# Altium integrated library Renesas Microcontroller H8S.IntLib: 670 symbols (part 51 of 70)
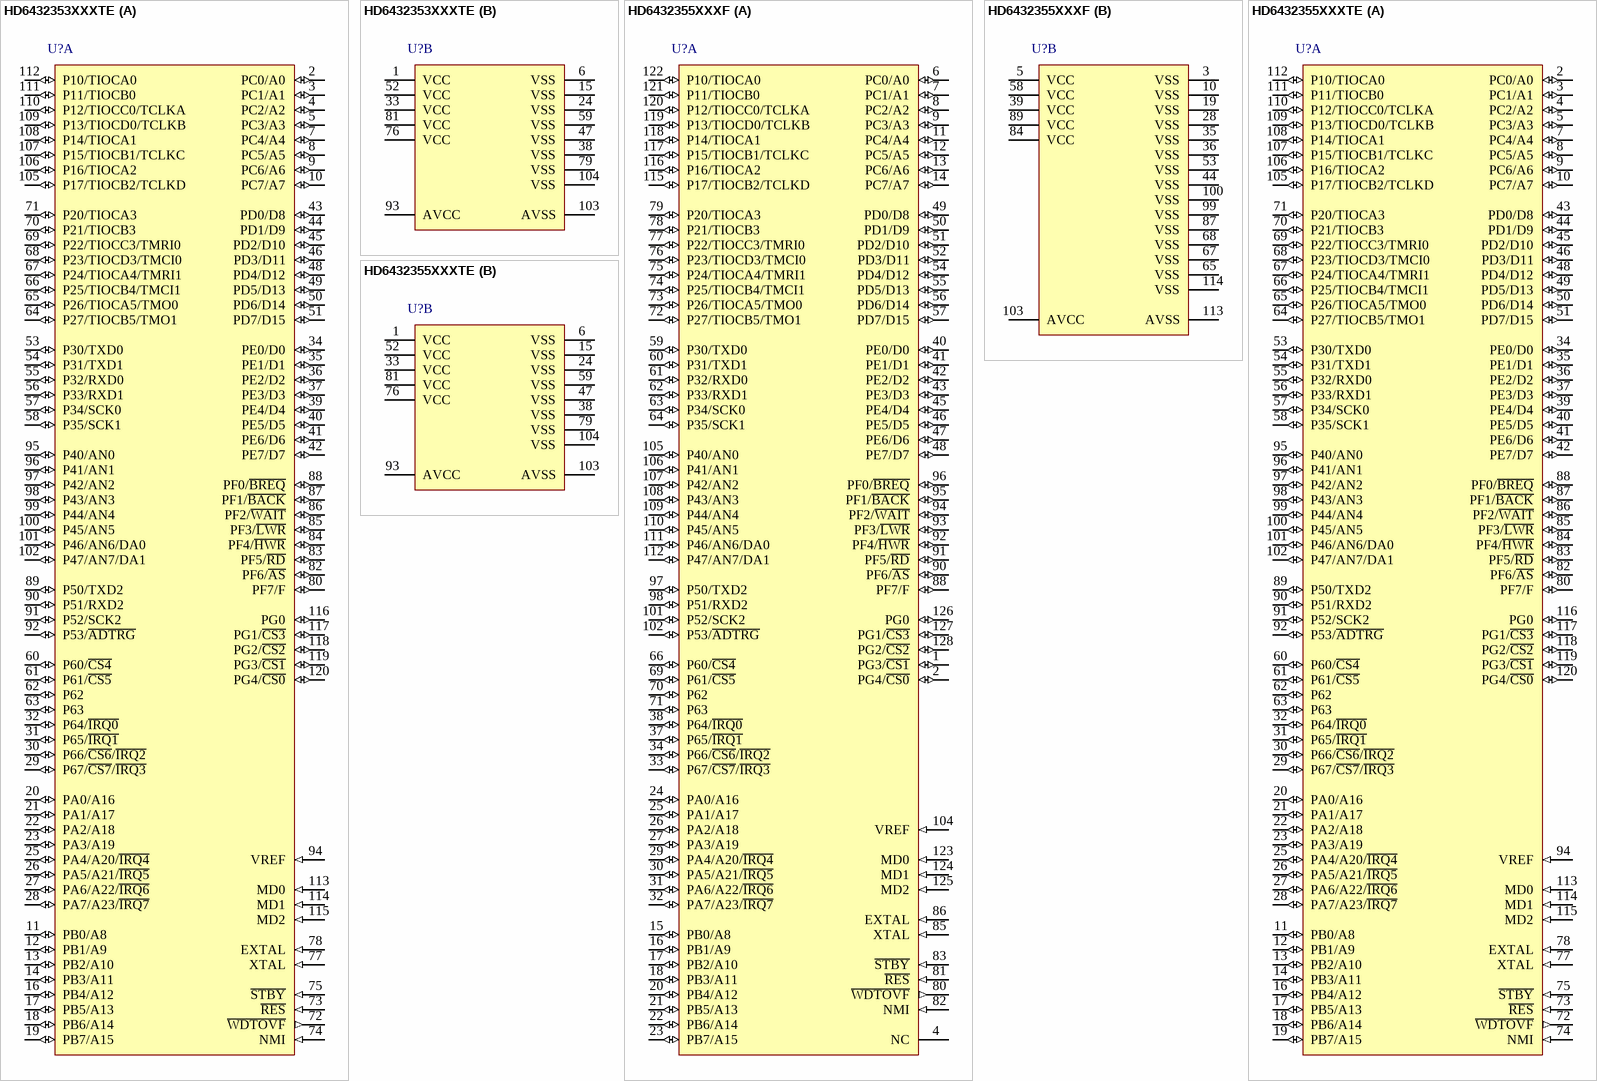
[diagram p270: symbols HD6432353XXXTE to HD6432355XXXTE]

## HD6432355XXXF
designator U?
Mask ROM H8S/2300 Series, 2355 Group MCU, 128K ROM, 4K RAM, FP-128B Pkg; Published: 28-Aug-2009; DatasheetVersion: Rev.4.00, Feb-2007; PackageVersion: Sep-2005; PackageReference: PRQP0128KB-A; Publisher: Altium Limited; PackageDescription: 128-Pin Plastic Quad Flat Pack, 20 x 14 x 2.7 mm Body, 0.5 mm Pitch; Code_JEITA: P-QFP128-14x20-0.50; Code_IPC: SQFP50P1600X2200-128; ComponentLink1Description: Manufacturer Link; ComponentLink1URL: http://sg.renesas.com/fmwk.jsp?cnt=h8s_family_landing.jsp&fp=/products/mpumcu/h8s_family/; ComponentLink2Description: Datasheet; ComponentLink2URL: http://documentation.renesas.com/eng/products/mpumcu/rej09b0354_2355hm.pdf; ComponentLink3Description: Packaging Specification; ComponentLink3URL: http://sg.renesas.com/media/products/common_info/package/pdf/ic/code/prqp0128kb_a.pdf
footprint PRQP0128KB-A_N (Shrink QFP, 128-Leads, Body 20x14 mm, Pitch 0.5mm, IPC Medium Density)
footprint PRQP0128KB-A_L (Shrink QFP, 128-Leads, Body 20x14 mm, Pitch 0.5mm, IPC High Density)
footprint PRQP0128KB-A_M (Shrink QFP, 128-Leads, Body 20x14 mm, Pitch 0.5mm, IPC Low Density)
part A pins: 1 PG3/~{CS1} (io), 2 PG4/~{CS0} (io), 4 NC, 6 PC0/A0 (io), 7 PC1/A1 (io), 8 PC2/A2 (io), 9 PC3/A3 (io), 11 PC4/A4 (io), 12 PC5/A5 (io), 13 PC6/A6 (io), 14 PC7/A7 (io), 15 PB0/A8 (io), 16 PB1/A9 (io), 17 PB2/A10 (io), 18 PB3/A11 (io), 20 PB4/A12 (io), 21 PB5/A13 (io), 22 PB6/A14 (io), 23 PB7/A15 (io), 24 PA0/A16 (io), 25 PA1/A17 (io), 26 PA2/A18 (io), 27 PA3/A19 (io), 29 PA4/A20/~{IRQ4} (io), 30 PA5/A21/~{IRQ5} (io), 31 PA6/A22/~{IRQ6} (io), 32 PA7/A23/~{IRQ7} (io), 33 P67/~{CS7}/~{IRQ3} (io), 34 P66/~{CS6}/~{IRQ2} (io), 37 P65/~{IRQ1} (io), 38 P64/~{IRQ0} (io), 40 PE0/D0 (io), 41 PE1/D1 (io), 42 PE2/D2 (io), 43 PE3/D3 (io), 45 PE4/D4 (io), 46 PE5/D5 (io), 47 PE6/D6 (io), 48 PE7/D7 (io), 49 PD0/D8 (io), 50 PD1/D9 (io), 51 PD2/D10 (io), 52 PD3/D11 (io), 54 PD4/D12 (io), 55 PD5/D13 (io), 56 PD6/D14 (io), 57 PD7/D15 (io), 59 P30/TXD0 (io), 60 P31/TXD1 (io), 61 P32/RXD0 (io), 62 P33/RXD1 (io), 63 P34/SCK0 (io), 64 P35/SCK1 (io), 66 P60/~{CS4} (io), 69 P61/~{CS5} (io), 70 P62 (io), 71 P63 (io), 72 P27/TIOCB5/TMO1 (io), 73 P26/TIOCA5/TMO0 (io), 74 P25/TIOCB4/TMCI1 (io), 75 P24/TIOCA4/TMRI1 (io), 76 P23/TIOCD3/TMCI0 (io), 77 P22/TIOCC3/TMRI0 (io), 78 P21/TIOCB3 (io), 79 P20/TIOCA3 (io), 80 ~{WDTOVF} (out), 81 ~{RES} (in), 82 NMI (in), 83 ~{STBY} (in), 85 XTAL (in), 86 EXTAL (in), 88 PF7/F (io), 90 PF6/~{AS} (io), 91 PF5/~{RD} (io), 92 PF4/~{HWR} (io), 93 PF3/~{LWR} (io), 94 PF2/~{WAIT} (io), 95 PF1/~{BACK} (io), 96 PF0/~{BREQ} (io), 97 P50/TXD2 (io), 98 P51/RXD2 (io), 101 P52/SCK2 (io), 102 P53/~{ADTRG} (io), 104 VREF (in), 105 P40/AN0 (io), 106 P41/AN1 (io), 107 P42/AN2 (io), 108 P43/AN3 (io), 109 P44/AN4 (io), 110 P45/AN5 (io), 111 P46/AN6/DA0 (io), 112 P47/AN7/DA1 (io), 115 P17/TIOCB2/TCLKD (io), 116 P16/TIOCA2 (io), 117 P15/TIOCB1/TCLKC (io), 118 P14/TIOCA1 (io), 119 P13/TIOCD0/TCLKB (io), 120 P12/TIOCC0/TCLKA (io), 121 P11/TIOCB0 (io), 122 P10/TIOCA0 (io), 123 MD0 (in), 124 MD1 (in), 125 MD2 (in), 126 PG0 (io), 127 PG1/~{CS3} (io), 128 PG2/~{CS2} (io)
part B pins: 3 VSS (power), 5 VCC (power), 10 VSS (power), 19 VSS (power), 28 VSS (power), 35 VSS (power), 36 VSS (power), 39 VCC (power), 44 VSS (power), 53 VSS (power), 58 VCC (power), 65 VSS (power), 67 VSS (power), 68 VSS (power), 84 VCC (power), 87 VSS (power), 89 VCC (power), 99 VSS (power), 100 VSS (power), 103 AVCC (power), 113 AVSS (power), 114 VSS (power)

## HD6432355XXXTE
designator U?
Mask ROM H8S/2300 Series, 2355 Group MCU, 128K ROM, 4K RAM, TFP-120 Pkg; Published: 28-Aug-2009; DatasheetVersion: Rev.4.00, Feb-2007; PackageVersion: Sep-2005; PackageReference: PTQP0120LA-A; Publisher: Altium Limited; PackageDescription: 120-Pin Plastic Thin QFP, 14 x 14 x 1.0 mm Body, 0.4 mm Pitch; Code_JEITA: P-TQFP120-14x14-0.40; ComponentLink1Description: Manufacturer Link; ComponentLink1URL: http://sg.renesas.com/fmwk.jsp?cnt=h8s_family_landing.jsp&fp=/products/mpumcu/h8s_family/; ComponentLink2Description: Datasheet; ComponentLink2URL: http://documentation.renesas.com/eng/products/mpumcu/rej09b0354_2355hm.pdf; ComponentLink3Description: Packaging Specification; ComponentLink3URL: http://sg.renesas.com/media/products/common_info/package/pdf/ic/code/ptqp0120la_a.pdf
footprint PTQP0120LA-A_N (Thin QFP, 120-Leads, Body 14x14mm, Pitch 0.4mm, IPC Medium Density)
footprint PTQP0120LA-A_L (Thin QFP, 120-Leads, Body 14x14mm, Pitch 0.4mm, IPC High Density)
footprint PTQP0120LA-A_M (Thin QFP, 120-Leads, Body 14x14mm, Pitch 0.4mm, IPC Low Density)
part A pins: 2 PC0/A0 (io), 3 PC1/A1 (io), 4 PC2/A2 (io), 5 PC3/A3 (io), 7 PC4/A4 (io), 8 PC5/A5 (io), 9 PC6/A6 (io), 10 PC7/A7 (io), 11 PB0/A8 (io), 12 PB1/A9 (io), 13 PB2/A10 (io), 14 PB3/A11 (io), 16 PB4/A12 (io), 17 PB5/A13 (io), 18 PB6/A14 (io), 19 PB7/A15 (io), 20 PA0/A16 (io), 21 PA1/A17 (io), 22 PA2/A18 (io), 23 PA3/A19 (io), 25 PA4/A20/~{IRQ4} (io), 26 PA5/A21/~{IRQ5} (io), 27 PA6/A22/~{IRQ6} (io), 28 PA7/A23/~{IRQ7} (io), 29 P67/~{CS7}/~{IRQ3} (io), 30 P66/~{CS6}/~{IRQ2} (io), 31 P65/~{IRQ1} (io), 32 P64/~{IRQ0} (io), 34 PE0/D0 (io), 35 PE1/D1 (io), 36 PE2/D2 (io), 37 PE3/D3 (io), 39 PE4/D4 (io), 40 PE5/D5 (io), 41 PE6/D6 (io), 42 PE7/D7 (io), 43 PD0/D8 (io), 44 PD1/D9 (io), 45 PD2/D10 (io), 46 PD3/D11 (io), 48 PD4/D12 (io), 49 PD5/D13 (io), 50 PD6/D14 (io), 51 PD7/D15 (io), 53 P30/TXD0 (io), 54 P31/TXD1 (io), 55 P32/RXD0 (io), 56 P33/RXD1 (io), 57 P34/SCK0 (io), 58 P35/SCK1 (io), 60 P60/~{CS4} (io), 61 P61/~{CS5} (io), 62 P62 (io), 63 P63 (io), 64 P27/TIOCB5/TMO1 (io), 65 P26/TIOCA5/TMO0 (io), 66 P25/TIOCB4/TMCI1 (io), 67 P24/TIOCA4/TMRI1 (io), 68 P23/TIOCD3/TMCI0 (io), 69 P22/TIOCC3/TMRI0 (io), 70 P21/TIOCB3 (io), 71 P20/TIOCA3 (io), 72 ~{WDTOVF} (out), 73 ~{RES} (in), 74 NMI (in), 75 ~{STBY} (in), 77 XTAL (in), 78 EXTAL (in), 80 PF7/F (io), 82 PF6/~{AS} (io), 83 PF5/~{RD} (io), 84 PF4/~{HWR} (io), 85 PF3/~{LWR} (io), 86 PF2/~{WAIT} (io), 87 PF1/~{BACK} (io), 88 PF0/~{BREQ} (io), 89 P50/TXD2 (io), 90 P51/RXD2 (io), 91 P52/SCK2 (io), 92 P53/~{ADTRG} (io), 94 VREF (in), 95 P40/AN0 (io), 96 P41/AN1 (io), 97 P42/AN2 (io), 98 P43/AN3 (io), 99 P44/AN4 (io), 100 P45/AN5 (io), 101 P46/AN6/DA0 (io), 102 P47/AN7/DA1 (io), 105 P17/TIOCB2/TCLKD (io), 106 P16/TIOCA2 (io), 107 P15/TIOCB1/TCLKC (io), 108 P14/TIOCA1 (io), 109 P13/TIOCD0/TCLKB (io), 110 P12/TIOCC0/TCLKA (io), 111 P11/TIOCB0 (io), 112 P10/TIOCA0 (io), 113 MD0 (in), 114 MD1 (in), 115 MD2 (in), 116 PG0 (io), 117 PG1/~{CS3} (io), 118 PG2/~{CS2} (io), 119 PG3/~{CS1} (io), 120 PG4/~{CS0} (io)
part B pins: 1 VCC (power), 6 VSS (power), 15 VSS (power), 24 VSS (power), 33 VCC (power), 38 VSS (power), 47 VSS (power), 52 VCC (power), 59 VSS (power), 76 VCC (power), 79 VSS (power), 81 VCC (power), 93 AVCC (power), 103 AVSS (power), 104 VSS (power)

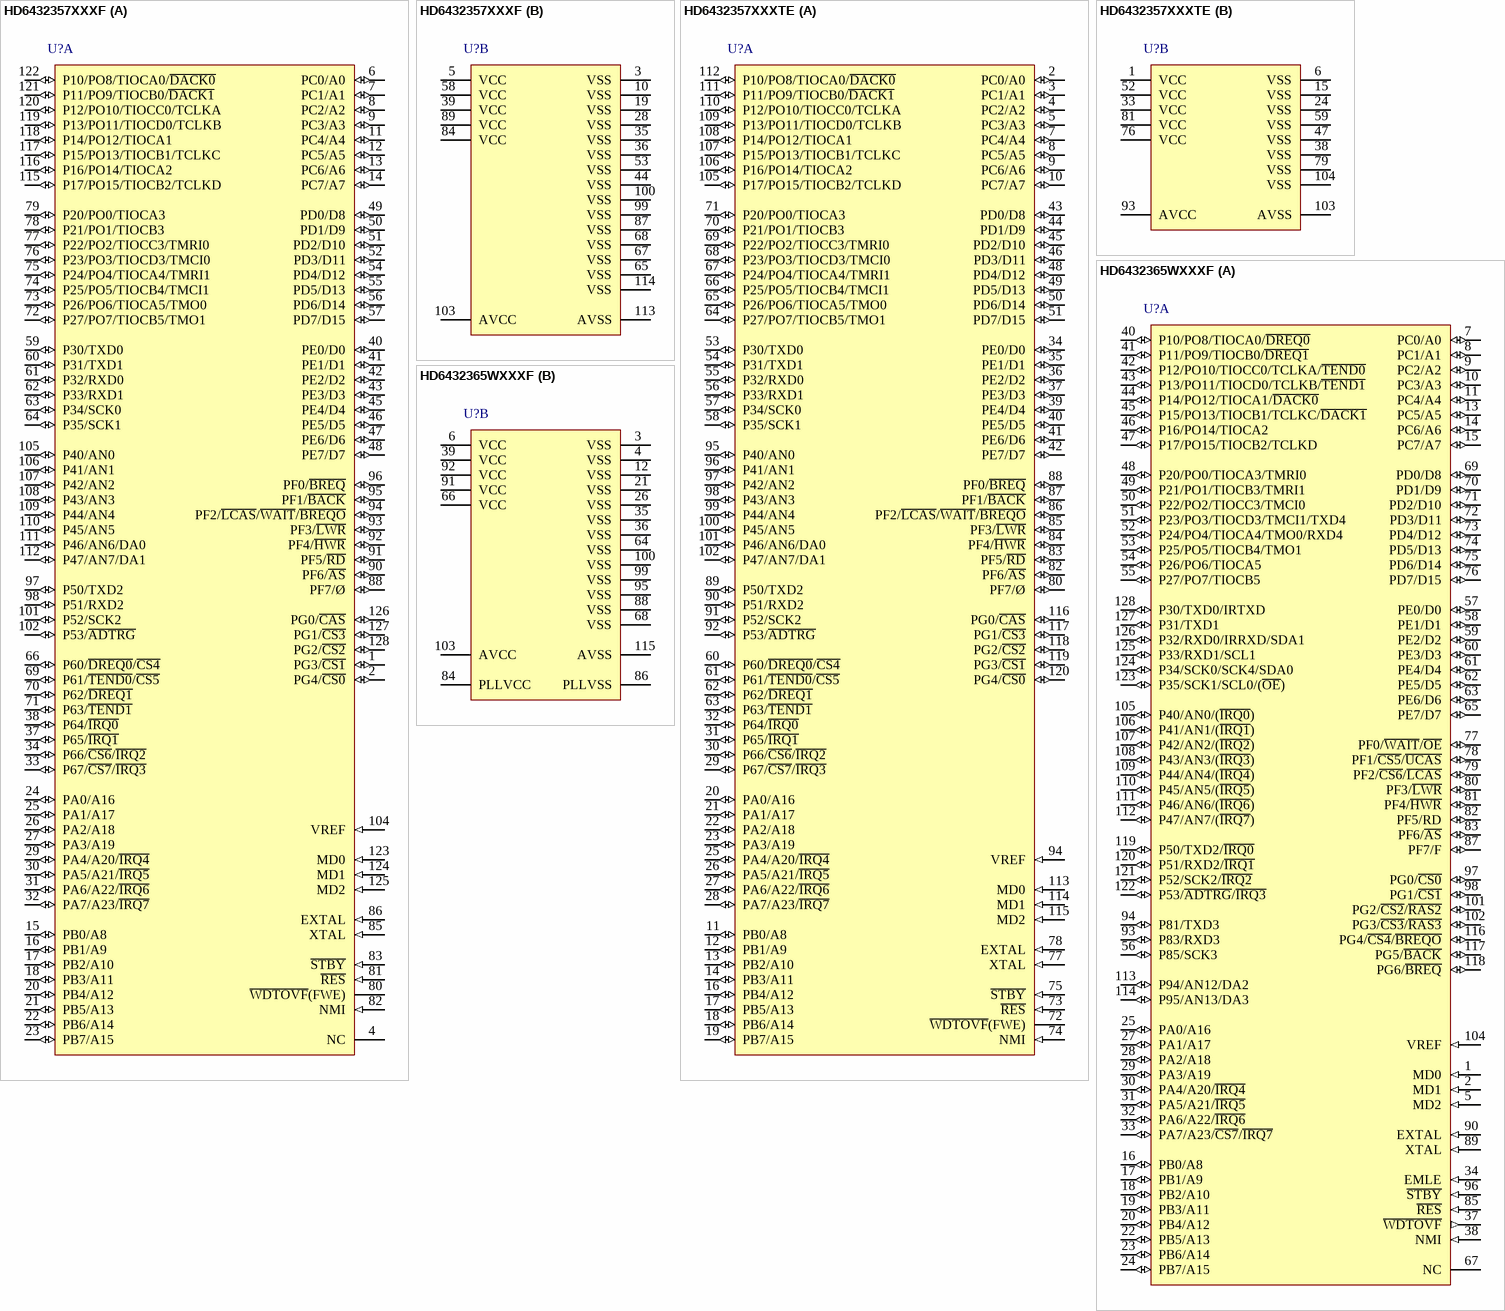
[diagram p176: symbols HD6432357XXXF to HD6432365WXXXF]

## HD6432357XXXF
designator U?
Mask ROM H8S/2300 Series, 2357 Group MCU, 128K ROM, 8K RAM, FP-128B Pkg; Published: 28-Aug-2009; DatasheetVersion: Rev.6.00, Oct-2004; PackageVersion: Sep-2005; PackageReference: PRQP0128KB-A; Publisher: Altium Limited; PackageDescription: 128-Pin Plastic Quad Flat Pack, 20 x 14 x 2.7 mm Body, 0.5 mm Pitch; Code_JEITA: P-QFP128-14x20-0.50; Code_IPC: SQFP50P1600X2200-128; ComponentLink1Description: Manufacturer Link; ComponentLink1URL: http://sg.renesas.com/fmwk.jsp?cnt=h8s_family_landing.jsp&fp=/products/mpumcu/h8s_family/; ComponentLink2Description: Datasheet; ComponentLink2URL: http://documentation.renesas.com/eng/products/mpumcu/rej09b0138_h8s2357.pdf; ComponentLink3Description: Packaging Specification; ComponentLink3URL: http://sg.renesas.com/media/products/common_info/package/pdf/ic/code/prqp0128kb_a.pdf
footprint PRQP0128KB-A_N (Shrink QFP, 128-Leads, Body 20x14 mm, Pitch 0.5mm, IPC Medium Density)
footprint PRQP0128KB-A_L (Shrink QFP, 128-Leads, Body 20x14 mm, Pitch 0.5mm, IPC High Density)
footprint PRQP0128KB-A_M (Shrink QFP, 128-Leads, Body 20x14 mm, Pitch 0.5mm, IPC Low Density)
part A pins: 1 PG3/~{CS1} (io), 2 PG4/~{CS0} (io), 4 NC, 6 PC0/A0 (io), 7 PC1/A1 (io), 8 PC2/A2 (io), 9 PC3/A3 (io), 11 PC4/A4 (io), 12 PC5/A5 (io), 13 PC6/A6 (io), 14 PC7/A7 (io), 15 PB0/A8 (io), 16 PB1/A9 (io), 17 PB2/A10 (io), 18 PB3/A11 (io), 20 PB4/A12 (io), 21 PB5/A13 (io), 22 PB6/A14 (io), 23 PB7/A15 (io), 24 PA0/A16 (io), 25 PA1/A17 (io), 26 PA2/A18 (io), 27 PA3/A19 (io), 29 PA4/A20/~{IRQ4} (io), 30 PA5/A21/~{IRQ5} (io), 31 PA6/A22/~{IRQ6} (io), 32 PA7/A23/~{IRQ7} (io), 33 P67/~{CS7}/~{IRQ3} (io), 34 P66/~{CS6}/~{IRQ2} (io), 37 P65/~{IRQ1} (io), 38 P64/~{IRQ0} (io), 40 PE0/D0 (io), 41 PE1/D1 (io), 42 PE2/D2 (io), 43 PE3/D3 (io), 45 PE4/D4 (io), 46 PE5/D5 (io), 47 PE6/D6 (io), 48 PE7/D7 (io), 49 PD0/D8 (io), 50 PD1/D9 (io), 51 PD2/D10 (io), 52 PD3/D11 (io), 54 PD4/D12 (io), 55 PD5/D13 (io), 56 PD6/D14 (io), 57 PD7/D15 (io), 59 P30/TXD0 (io), 60 P31/TXD1 (io), 61 P32/RXD0 (io), 62 P33/RXD1 (io), 63 P34/SCK0 (io), 64 P35/SCK1 (io), 66 P60/~{DREQ0}/~{CS4} (io), 69 P61/~{TEND0}/~{CS5} (io), 70 P62/~{DREQ1} (io), 71 P63/~{TEND1} (io), 72 P27/PO7/TIOCB5/TMO1 (io), 73 P26/PO6/TIOCA5/TMO0 (io), 74 P25/PO5/TIOCB4/TMCI1 (io), 75 P24/PO4/TIOCA4/TMRI1 (io), 76 P23/PO3/TIOCD3/TMCI0 (io), 77 P22/PO2/TIOCC3/TMRI0 (io), 78 P21/PO1/TIOCB3 (io), 79 P20/PO0/TIOCA3 (io), 80 ~{WDTOVF}(FWE), 81 ~{RES} (in), 82 NMI (in), 83 ~{STBY} (in), 85 XTAL (in), 86 EXTAL (in), 88 PF7/Ø (io), 90 PF6/~{AS} (io), 91 PF5/~{RD} (io), 92 PF4/~{HWR} (io), 93 PF3/~{LWR} (io), 94 PF2/~{LCAS}/~{WAIT}/~{BREQO} (io), 95 PF1/~{BACK} (io), 96 PF0/~{BREQ} (io), 97 P50/TXD2 (io), 98 P51/RXD2 (io), 101 P52/SCK2 (io), 102 P53/~{ADTRG} (io), 104 VREF (in), 105 P40/AN0 (io), 106 P41/AN1 (io), 107 P42/AN2 (io), 108 P43/AN3 (io), 109 P44/AN4 (io), 110 P45/AN5 (io), 111 P46/AN6/DA0 (io), 112 P47/AN7/DA1 (io), 115 P17/PO15/TIOCB2/TCLKD (io), 116 P16/PO14/TIOCA2 (io), 117 P15/PO13/TIOCB1/TCLKC (io), 118 P14/PO12/TIOCA1 (io), 119 P13/PO11/TIOCD0/TCLKB (io), 120 P12/PO10/TIOCC0/TCLKA (io), 121 P11/PO9/TIOCB0/~{DACK1} (io), 122 P10/PO8/TIOCA0/~{DACK0} (io), 123 MD0 (in), 124 MD1 (in), 125 MD2 (in), 126 PG0/~{CAS} (io), 127 PG1/~{CS3} (io), 128 PG2/~{CS2} (io)
part B pins: 3 VSS (power), 5 VCC (power), 10 VSS (power), 19 VSS (power), 28 VSS (power), 35 VSS (power), 36 VSS (power), 39 VCC (power), 44 VSS (power), 53 VSS (power), 58 VCC (power), 65 VSS (power), 67 VSS (power), 68 VSS (power), 84 VCC (power), 87 VSS (power), 89 VCC (power), 99 VSS (power), 100 VSS (power), 103 AVCC (power), 113 AVSS (power), 114 VSS (power)

## HD6432357XXXTE
designator U?
Mask ROM H8S/2300 Series, 2357 Group MCU, 128K ROM, 8K RAM, TFP-120 Pkg; Published: 28-Aug-2009; DatasheetVersion: Rev.6.00, Oct-2004; PackageVersion: Sep-2005; PackageReference: PTQP0120LA-A; Publisher: Altium Limited; PackageDescription: 120-Pin Plastic Thin QFP, 14 x 14 x 1.0 mm Body, 0.4 mm Pitch; Code_JEITA: P-TQFP120-14x14-0.40; ComponentLink1Description: Manufacturer Link; ComponentLink1URL: http://sg.renesas.com/fmwk.jsp?cnt=h8s_family_landing.jsp&fp=/products/mpumcu/h8s_family/; ComponentLink2Description: Datasheet; ComponentLink2URL: http://documentation.renesas.com/eng/products/mpumcu/rej09b0138_h8s2357.pdf; ComponentLink3Description: Packaging Specification; ComponentLink3URL: http://sg.renesas.com/media/products/common_info/package/pdf/ic/code/ptqp0120la_a.pdf
footprint PTQP0120LA-A_N (Thin QFP, 120-Leads, Body 14x14mm, Pitch 0.4mm, IPC Medium Density)
footprint PTQP0120LA-A_L (Thin QFP, 120-Leads, Body 14x14mm, Pitch 0.4mm, IPC High Density)
footprint PTQP0120LA-A_M (Thin QFP, 120-Leads, Body 14x14mm, Pitch 0.4mm, IPC Low Density)
part A pins: 2 PC0/A0 (io), 3 PC1/A1 (io), 4 PC2/A2 (io), 5 PC3/A3 (io), 7 PC4/A4 (io), 8 PC5/A5 (io), 9 PC6/A6 (io), 10 PC7/A7 (io), 11 PB0/A8 (io), 12 PB1/A9 (io), 13 PB2/A10 (io), 14 PB3/A11 (io), 16 PB4/A12 (io), 17 PB5/A13 (io), 18 PB6/A14 (io), 19 PB7/A15 (io), 20 PA0/A16 (io), 21 PA1/A17 (io), 22 PA2/A18 (io), 23 PA3/A19 (io), 25 PA4/A20/~{IRQ4} (io), 26 PA5/A21/~{IRQ5} (io), 27 PA6/A22/~{IRQ6} (io), 28 PA7/A23/~{IRQ7} (io), 29 P67/~{CS7}/~{IRQ3} (io), 30 P66/~{CS6}/~{IRQ2} (io), 31 P65/~{IRQ1} (io), 32 P64/~{IRQ0} (io), 34 PE0/D0 (io), 35 PE1/D1 (io), 36 PE2/D2 (io), 37 PE3/D3 (io), 39 PE4/D4 (io), 40 PE5/D5 (io), 41 PE6/D6 (io), 42 PE7/D7 (io), 43 PD0/D8 (io), 44 PD1/D9 (io), 45 PD2/D10 (io), 46 PD3/D11 (io), 48 PD4/D12 (io), 49 PD5/D13 (io), 50 PD6/D14 (io), 51 PD7/D15 (io), 53 P30/TXD0 (io), 54 P31/TXD1 (io), 55 P32/RXD0 (io), 56 P33/RXD1 (io), 57 P34/SCK0 (io), 58 P35/SCK1 (io), 60 P60/~{DREQ0}/~{CS4} (io), 61 P61/~{TEND0}/~{CS5} (io), 62 P62/~{DREQ1} (io), 63 P63/~{TEND1} (io), 64 P27/PO7/TIOCB5/TMO1 (io), 65 P26/PO6/TIOCA5/TMO0 (io), 66 P25/PO5/TIOCB4/TMCI1 (io), 67 P24/PO4/TIOCA4/TMRI1 (io), 68 P23/PO3/TIOCD3/TMCI0 (io), 69 P22/PO2/TIOCC3/TMRI0 (io), 70 P21/PO1/TIOCB3 (io), 71 P20/PO0/TIOCA3 (io), 72 ~{WDTOVF}(FWE), 73 ~{RES} (in), 74 NMI (in), 75 ~{STBY} (in), 77 XTAL (in), 78 EXTAL (in), 80 PF7/Ø (io), 82 PF6/~{AS} (io), 83 PF5/~{RD} (io), 84 PF4/~{HWR} (io), 85 PF3/~{LWR} (io), 86 PF2/~{LCAS}/~{WAIT}/~{BREQO} (io), 87 PF1/~{BACK} (io), 88 PF0/~{BREQ} (io), 89 P50/TXD2 (io), 90 P51/RXD2 (io), 91 P52/SCK2 (io), 92 P53/~{ADTRG} (io), 94 VREF (in), 95 P40/AN0 (io), 96 P41/AN1 (io), 97 P42/AN2 (io), 98 P43/AN3 (io), 99 P44/AN4 (io), 100 P45/AN5 (io), 101 P46/AN6/DA0 (io), 102 P47/AN7/DA1 (io), 105 P17/PO15/TIOCB2/TCLKD (io), 106 P16/PO14/TIOCA2 (io), 107 P15/PO13/TIOCB1/TCLKC (io), 108 P14/PO12/TIOCA1 (io), 109 P13/PO11/TIOCD0/TCLKB (io), 110 P12/PO10/TIOCC0/TCLKA (io), 111 P11/PO9/TIOCB0/~{DACK1} (io), 112 P10/PO8/TIOCA0/~{DACK0} (io), 113 MD0 (in), 114 MD1 (in), 115 MD2 (in), 116 PG0/~{CAS} (io), 117 PG1/~{CS3} (io), 118 PG2/~{CS2} (io), 119 PG3/~{CS1} (io), 120 PG4/~{CS0} (io)
part B pins: 1 VCC (power), 6 VSS (power), 15 VSS (power), 24 VSS (power), 33 VCC (power), 38 VSS (power), 47 VSS (power), 52 VCC (power), 59 VSS (power), 76 VCC (power), 79 VSS (power), 81 VCC (power), 93 AVCC (power), 103 AVSS (power), 104 VSS (power)

## HD6432365WXXXF
designator U?
Mask ROM H8S/2300 Series, 2368 Group MCU, 256K ROM, 16K RAM, FP-128B Pkg; Published: 28-Aug-2009; DatasheetVersion: Rev.6.00, Mar-2009; PackageVersion: Sep-2005; PackageReference: PRQP0128KB-A; Publisher: Altium Limited; PackageDescription: 128-Pin Plastic Quad Flat Pack, 20 x 14 x 2.7 mm Body, 0.5 mm Pitch; Code_JEITA: P-QFP128-14x20-0.50; Code_IPC: SQFP50P1600X2200-128; ComponentLink1Description: Manufacturer Link; ComponentLink1URL: http://sg.renesas.com/fmwk.jsp?cnt=h8s_family_landing.jsp&fp=/products/mpumcu/h8s_family/; ComponentLink2Description: Datasheet; ComponentLink2URL: http://documentation.renesas.com/eng/products/mpumcu/rej09b0050_h8s2368.pdf; ComponentLink3Description: Packaging Specification; ComponentLink3URL: http://sg.renesas.com/media/products/common_info/package/pdf/ic/code/prqp0128kb_a.pdf
footprint PRQP0128KB-A_N (Shrink QFP, 128-Leads, Body 20x14 mm, Pitch 0.5mm, IPC Medium Density)
footprint PRQP0128KB-A_L (Shrink QFP, 128-Leads, Body 20x14 mm, Pitch 0.5mm, IPC High Density)
footprint PRQP0128KB-A_M (Shrink QFP, 128-Leads, Body 20x14 mm, Pitch 0.5mm, IPC Low Density)
part A pins: 1 MD0 (in), 2 MD1 (in), 5 MD2 (in), 7 PC0/A0 (io), 8 PC1/A1 (io), 9 PC2/A2 (io), 10 PC3/A3 (io), 11 PC4/A4 (io), 13 PC5/A5 (io), 14 PC6/A6 (io), 15 PC7/A7 (io), 16 PB0/A8 (io), 17 PB1/A9 (io), 18 PB2/A10 (io), 19 PB3/A11 (io), 20 PB4/A12 (io), 22 PB5/A13 (io), 23 PB6/A14 (io), 24 PB7/A15 (io), 25 PA0/A16 (io), 27 PA1/A17 (io), 28 PA2/A18 (io), 29 PA3/A19 (io), 30 PA4/A20/~{IRQ4} (io), 31 PA5/A21/~{IRQ5} (io), 32 PA6/A22/~{IRQ6} (io), 33 PA7/A23/~{CS7}/~{IRQ7} (io), 34 EMLE (in), 37 ~{WDTOVF} (out), 38 NMI (in), 40 P10/PO8/TIOCA0/~{DREQ0} (io), 41 P11/PO9/TIOCB0/~{DREQ1} (io), 42 P12/PO10/TIOCC0/TCLKA/~{TEND0} (io), 43 P13/PO11/TIOCD0/TCLKB/~{TEND1} (io), 44 P14/PO12/TIOCA1/~{DACK0} (io), 45 P15/PO13/TIOCB1/TCLKC/~{DACK1} (io), 46 P16/PO14/TIOCA2 (io), 47 P17/PO15/TIOCB2/TCLKD (io), 48 P20/PO0/TIOCA3/TMRI0 (io), 49 P21/PO1/TIOCB3/TMRI1 (io), 50 P22/PO2/TIOCC3/TMCI0 (io), 51 P23/PO3/TIOCD3/TMCI1/TXD4 (io), 52 P24/PO4/TIOCA4/TMO0/RXD4 (io), 53 P25/PO5/TIOCB4/TMO1 (io), 54 P26/PO6/TIOCA5 (io), 55 P27/PO7/TIOCB5 (io), 56 P85/SCK3 (io), 57 PE0/D0 (io), 58 PE1/D1 (io), 59 PE2/D2 (io), 60 PE3/D3 (io), 61 PE4/D4 (io), 62 PE5/D5 (io), 63 PE6/D6 (io), 65 PE7/D7 (io), 67 NC, 69 PD0/D8 (io), 70 PD1/D9 (io), 71 PD2/D10 (io), 72 PD3/D11 (io), 73 PD4/D12 (io), 74 PD5/D13 (io), 75 PD6/D14 (io), 76 PD7/D15 (io), 77 PF0/~{WAIT}/~{OE} (io), 78 PF1/~{CS5}/~{UCAS} (io), 79 PF2/~{CS6}/~{LCAS} (io), 80 PF3/~{LWR} (io), 81 PF4/~{HWR} (io), 82 PF5/RD (io), 83 PF6/~{AS} (io), 85 ~{RES} (in), 87 PF7/F (io), 89 XTAL (in), 90 EXTAL (in), 93 P83/RXD3 (io), 94 P81/TXD3 (io), 96 ~{STBY} (in), 97 PG0/~{CS0} (io), 98 PG1/~{CS1} (io), 101 PG2/~{CS2}/~{RAS2} (io), 102 PG3/~{CS3}/~{RAS3} (io), 104 VREF (in), 105 P40/AN0/(~{IRQ0}) (io), 106 P41/AN1/(~{IRQ1}) (io), 107 P42/AN2/(~{IRQ2}) (io), 108 P43/AN3/(~{IRQ3}) (io), 109 P44/AN4/(~{IRQ4}) (io), 110 P45/AN5/(~{IRQ5}) (io), 111 P46/AN6/(~{IRQ6}) (io), 112 P47/AN7/(~{IRQ7}) (io), 113 P94/AN12/DA2 (io), 114 P95/AN13/DA3 (io), 116 PG4/~{CS4}/~{BREQO} (io), 117 PG5/~{BACK} (io), 118 PG6/~{BREQ} (io), 119 P50/TXD2/~{IRQ0} (io), 120 P51/RXD2/~{IRQ1} (io), 121 P52/SCK2/~{IRQ2} (io), 122 P53/~{ADTRG}/~{IRQ3} (io), 123 P35/SCK1/SCL0/(~{OE}) (io), 124 P34/SCK0/SCK4/SDA0 (io), 125 P33/RXD1/SCL1 (io), 126 P32/RXD0/IRRXD/SDA1 (io), 127 P31/TXD1 (io), 128 P30/TXD0/IRTXD (io)
part B pins: 3 VSS (power), 4 VSS (power), 6 VCC (power), 12 VSS (power), 21 VSS (power), 26 VSS (power), 35 VSS (power), 36 VSS (power), 39 VCC (power), 64 VSS (power), 66 VCC (power), 68 VSS (power), 84 PLLVCC (power), 86 PLLVSS (power), 88 VSS (power), 91 VCC (power), 92 VCC (power), 95 VSS (power), 99 VSS (power), 100 VSS (power), 103 AVCC (power), 115 AVSS (power)

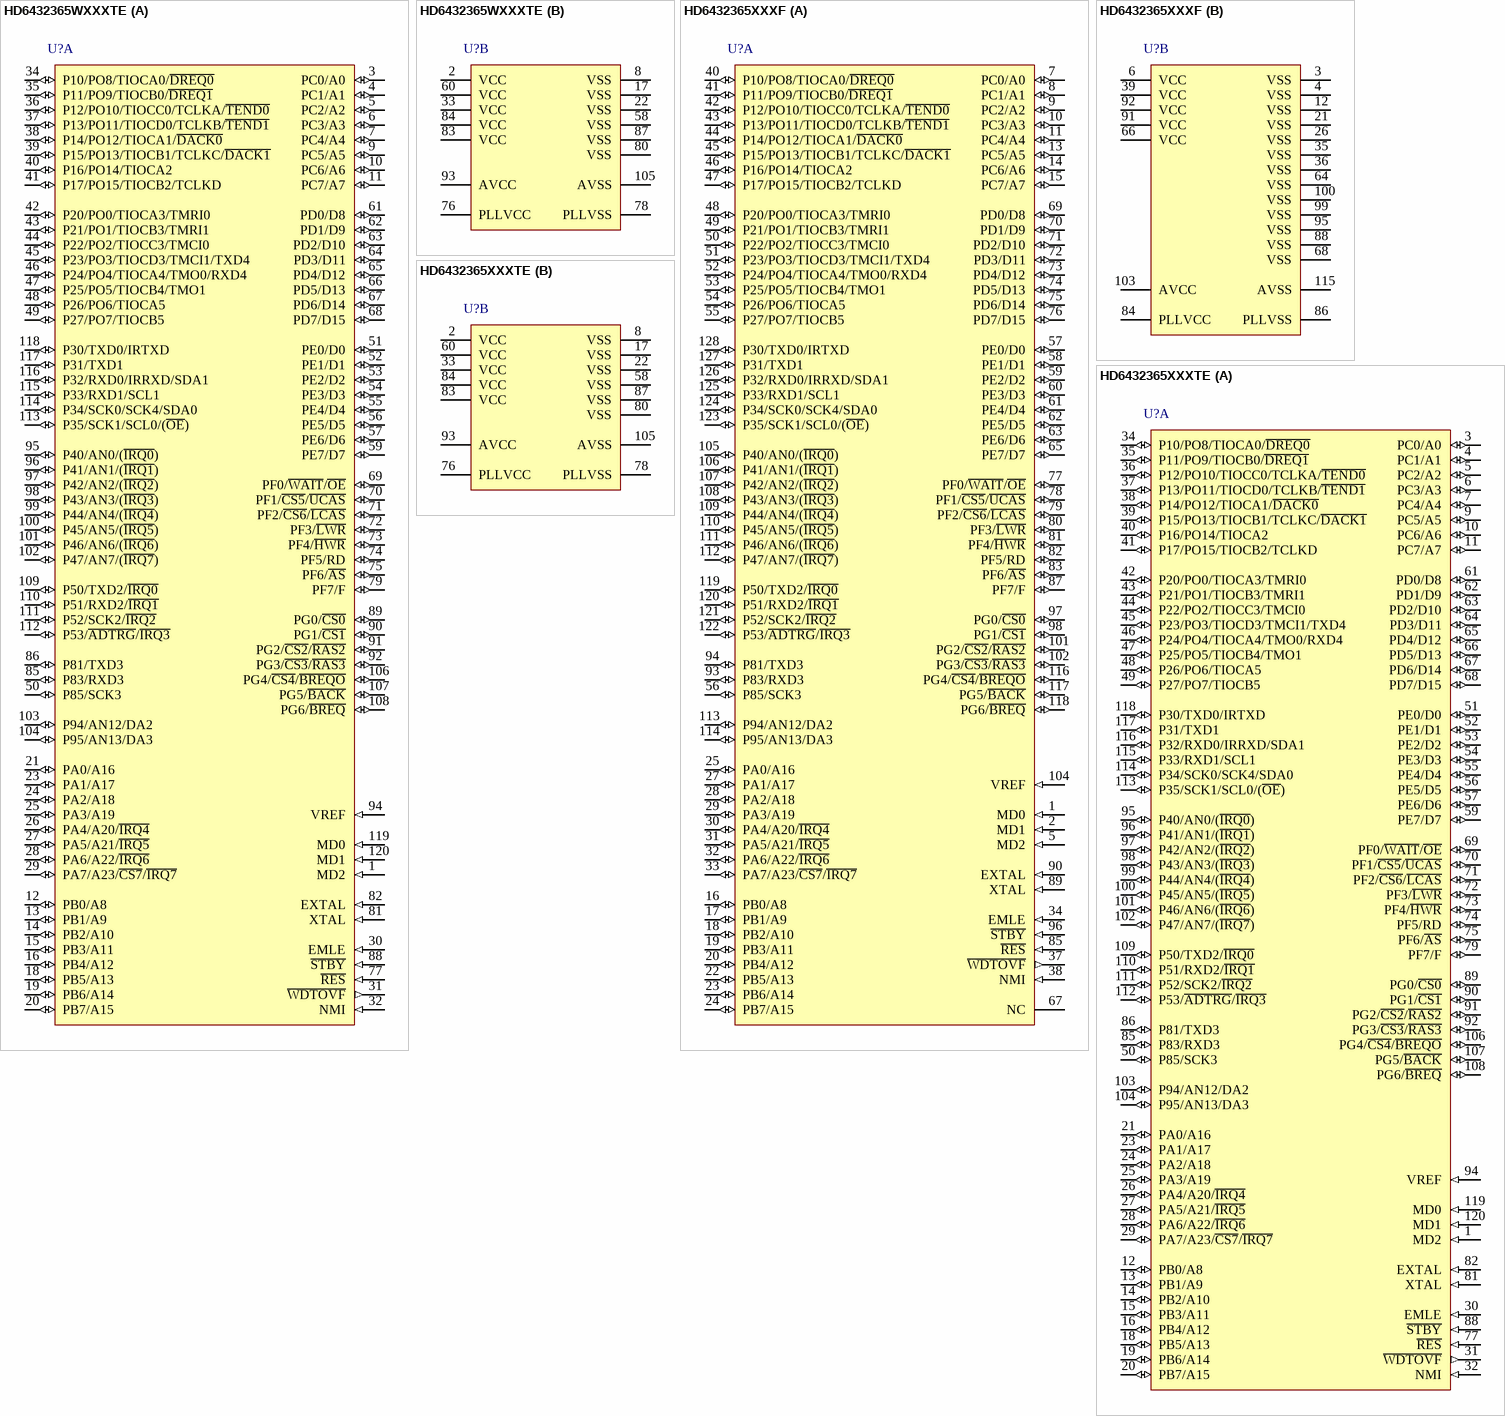
[diagram p177: symbols HD6432365WXXXTE to HD6432365XXXTE]

## HD6432365WXXXTE
designator U?
Mask ROM H8S/2300 Series, 2368 Group MCU, 256K ROM, 16K RAM, TFP-120 Pkg; Published: 28-Aug-2009; DatasheetVersion: Rev.6.00, Mar-2009; PackageVersion: Sep-2005; PackageReference: PTQP0120LA-A; Publisher: Altium Limited; PackageDescription: 120-Pin Plastic Thin QFP, 14 x 14 x 1.0 mm Body, 0.4 mm Pitch; Code_JEITA: P-TQFP120-14x14-0.40; ComponentLink1Description: Manufacturer Link; ComponentLink1URL: http://sg.renesas.com/fmwk.jsp?cnt=h8s_family_landing.jsp&fp=/products/mpumcu/h8s_family/; ComponentLink2Description: Datasheet; ComponentLink2URL: http://documentation.renesas.com/eng/products/mpumcu/rej09b0050_h8s2368.pdf; ComponentLink3Description: Packaging Specification; ComponentLink3URL: http://sg.renesas.com/media/products/common_info/package/pdf/ic/code/ptqp0120la_a.pdf
footprint PTQP0120LA-A_N (Thin QFP, 120-Leads, Body 14x14mm, Pitch 0.4mm, IPC Medium Density)
footprint PTQP0120LA-A_L (Thin QFP, 120-Leads, Body 14x14mm, Pitch 0.4mm, IPC High Density)
footprint PTQP0120LA-A_M (Thin QFP, 120-Leads, Body 14x14mm, Pitch 0.4mm, IPC Low Density)
part A pins: 1 MD2 (in), 3 PC0/A0 (io), 4 PC1/A1 (io), 5 PC2/A2 (io), 6 PC3/A3 (io), 7 PC4/A4 (io), 9 PC5/A5 (io), 10 PC6/A6 (io), 11 PC7/A7 (io), 12 PB0/A8 (io), 13 PB1/A9 (io), 14 PB2/A10 (io), 15 PB3/A11 (io), 16 PB4/A12 (io), 18 PB5/A13 (io), 19 PB6/A14 (io), 20 PB7/A15 (io), 21 PA0/A16 (io), 23 PA1/A17 (io), 24 PA2/A18 (io), 25 PA3/A19 (io), 26 PA4/A20/~{IRQ4} (io), 27 PA5/A21/~{IRQ5} (io), 28 PA6/A22/~{IRQ6} (io), 29 PA7/A23/~{CS7}/~{IRQ7} (io), 30 EMLE (in), 31 ~{WDTOVF} (out), 32 NMI (in), 34 P10/PO8/TIOCA0/~{DREQ0} (io), 35 P11/PO9/TIOCB0/~{DREQ1} (io), 36 P12/PO10/TIOCC0/TCLKA/~{TEND0} (io), 37 P13/PO11/TIOCD0/TCLKB/~{TEND1} (io), 38 P14/PO12/TIOCA1/~{DACK0} (io), 39 P15/PO13/TIOCB1/TCLKC/~{DACK1} (io), 40 P16/PO14/TIOCA2 (io), 41 P17/PO15/TIOCB2/TCLKD (io), 42 P20/PO0/TIOCA3/TMRI0 (io), 43 P21/PO1/TIOCB3/TMRI1 (io), 44 P22/PO2/TIOCC3/TMCI0 (io), 45 P23/PO3/TIOCD3/TMCI1/TXD4 (io), 46 P24/PO4/TIOCA4/TMO0/RXD4 (io), 47 P25/PO5/TIOCB4/TMO1 (io), 48 P26/PO6/TIOCA5 (io), 49 P27/PO7/TIOCB5 (io), 50 P85/SCK3 (io), 51 PE0/D0 (io), 52 PE1/D1 (io), 53 PE2/D2 (io), 54 PE3/D3 (io), 55 PE4/D4 (io), 56 PE5/D5 (io), 57 PE6/D6 (io), 59 PE7/D7 (io), 61 PD0/D8 (io), 62 PD1/D9 (io), 63 PD2/D10 (io), 64 PD3/D11 (io), 65 PD4/D12 (io), 66 PD5/D13 (io), 67 PD6/D14 (io), 68 PD7/D15 (io), 69 PF0/~{WAIT}/~{OE} (io), 70 PF1/~{CS5}/~{UCAS} (io), 71 PF2/~{CS6}/~{LCAS} (io), 72 PF3/~{LWR} (io), 73 PF4/~{HWR} (io), 74 PF5/RD (io), 75 PF6/~{AS} (io), 77 ~{RES} (in), 79 PF7/F (io), 81 XTAL (in), 82 EXTAL (in), 85 P83/RXD3 (io), 86 P81/TXD3 (io), 88 ~{STBY} (in), 89 PG0/~{CS0} (io), 90 PG1/~{CS1} (io), 91 PG2/~{CS2}/~{RAS2} (io), 92 PG3/~{CS3}/~{RAS3} (io), 94 VREF (in), 95 P40/AN0/(~{IRQ0}) (io), 96 P41/AN1/(~{IRQ1}) (io), 97 P42/AN2/(~{IRQ2}) (io), 98 P43/AN3/(~{IRQ3}) (io), 99 P44/AN4/(~{IRQ4}) (io), 100 P45/AN5/(~{IRQ5}) (io), 101 P46/AN6/(~{IRQ6}) (io), 102 P47/AN7/(~{IRQ7}) (io), 103 P94/AN12/DA2 (io), 104 P95/AN13/DA3 (io), 106 PG4/~{CS4}/~{BREQO} (io), 107 PG5/~{BACK} (io), 108 PG6/~{BREQ} (io), 109 P50/TXD2/~{IRQ0} (io), 110 P51/RXD2/~{IRQ1} (io), 111 P52/SCK2/~{IRQ2} (io), 112 P53/~{ADTRG}/~{IRQ3} (io), 113 P35/SCK1/SCL0/(~{OE}) (io), 114 P34/SCK0/SCK4/SDA0 (io), 115 P33/RXD1/SCL1 (io), 116 P32/RXD0/IRRXD/SDA1 (io), 117 P31/TXD1 (io), 118 P30/TXD0/IRTXD (io), 119 MD0 (in), 120 MD1 (in)
part B pins: 2 VCC (power), 8 VSS (power), 17 VSS (power), 22 VSS (power), 33 VCC (power), 58 VSS (power), 60 VCC (power), 76 PLLVCC (power), 78 PLLVSS (power), 80 VSS (power), 83 VCC (power), 84 VCC (power), 87 VSS (power), 93 AVCC (power), 105 AVSS (power)

## HD6432365XXXF
designator U?
Mask ROM H8S/2300 Series, 2368 Group MCU, 256K ROM, 16K RAM, FP-128B Pkg; Published: 28-Aug-2009; DatasheetVersion: Rev.6.00, Mar-2009; PackageVersion: Sep-2005; PackageReference: PRQP0128KB-A; Publisher: Altium Limited; PackageDescription: 128-Pin Plastic Quad Flat Pack, 20 x 14 x 2.7 mm Body, 0.5 mm Pitch; Code_JEITA: P-QFP128-14x20-0.50; Code_IPC: SQFP50P1600X2200-128; ComponentLink1Description: Manufacturer Link; ComponentLink1URL: http://sg.renesas.com/fmwk.jsp?cnt=h8s_family_landing.jsp&fp=/products/mpumcu/h8s_family/; ComponentLink2Description: Datasheet; ComponentLink2URL: http://documentation.renesas.com/eng/products/mpumcu/rej09b0050_h8s2368.pdf; ComponentLink3Description: Packaging Specification; ComponentLink3URL: http://sg.renesas.com/media/products/common_info/package/pdf/ic/code/prqp0128kb_a.pdf
footprint PRQP0128KB-A_N (Shrink QFP, 128-Leads, Body 20x14 mm, Pitch 0.5mm, IPC Medium Density)
footprint PRQP0128KB-A_L (Shrink QFP, 128-Leads, Body 20x14 mm, Pitch 0.5mm, IPC High Density)
footprint PRQP0128KB-A_M (Shrink QFP, 128-Leads, Body 20x14 mm, Pitch 0.5mm, IPC Low Density)
part A pins: 1 MD0 (in), 2 MD1 (in), 5 MD2 (in), 7 PC0/A0 (io), 8 PC1/A1 (io), 9 PC2/A2 (io), 10 PC3/A3 (io), 11 PC4/A4 (io), 13 PC5/A5 (io), 14 PC6/A6 (io), 15 PC7/A7 (io), 16 PB0/A8 (io), 17 PB1/A9 (io), 18 PB2/A10 (io), 19 PB3/A11 (io), 20 PB4/A12 (io), 22 PB5/A13 (io), 23 PB6/A14 (io), 24 PB7/A15 (io), 25 PA0/A16 (io), 27 PA1/A17 (io), 28 PA2/A18 (io), 29 PA3/A19 (io), 30 PA4/A20/~{IRQ4} (io), 31 PA5/A21/~{IRQ5} (io), 32 PA6/A22/~{IRQ6} (io), 33 PA7/A23/~{CS7}/~{IRQ7} (io), 34 EMLE (in), 37 ~{WDTOVF} (out), 38 NMI (in), 40 P10/PO8/TIOCA0/~{DREQ0} (io), 41 P11/PO9/TIOCB0/~{DREQ1} (io), 42 P12/PO10/TIOCC0/TCLKA/~{TEND0} (io), 43 P13/PO11/TIOCD0/TCLKB/~{TEND1} (io), 44 P14/PO12/TIOCA1/~{DACK0} (io), 45 P15/PO13/TIOCB1/TCLKC/~{DACK1} (io), 46 P16/PO14/TIOCA2 (io), 47 P17/PO15/TIOCB2/TCLKD (io), 48 P20/PO0/TIOCA3/TMRI0 (io), 49 P21/PO1/TIOCB3/TMRI1 (io), 50 P22/PO2/TIOCC3/TMCI0 (io), 51 P23/PO3/TIOCD3/TMCI1/TXD4 (io), 52 P24/PO4/TIOCA4/TMO0/RXD4 (io), 53 P25/PO5/TIOCB4/TMO1 (io), 54 P26/PO6/TIOCA5 (io), 55 P27/PO7/TIOCB5 (io), 56 P85/SCK3 (io), 57 PE0/D0 (io), 58 PE1/D1 (io), 59 PE2/D2 (io), 60 PE3/D3 (io), 61 PE4/D4 (io), 62 PE5/D5 (io), 63 PE6/D6 (io), 65 PE7/D7 (io), 67 NC, 69 PD0/D8 (io), 70 PD1/D9 (io), 71 PD2/D10 (io), 72 PD3/D11 (io), 73 PD4/D12 (io), 74 PD5/D13 (io), 75 PD6/D14 (io), 76 PD7/D15 (io), 77 PF0/~{WAIT}/~{OE} (io), 78 PF1/~{CS5}/~{UCAS} (io), 79 PF2/~{CS6}/~{LCAS} (io), 80 PF3/~{LWR} (io), 81 PF4/~{HWR} (io), 82 PF5/RD (io), 83 PF6/~{AS} (io), 85 ~{RES} (in), 87 PF7/F (io), 89 XTAL (in), 90 EXTAL (in), 93 P83/RXD3 (io), 94 P81/TXD3 (io), 96 ~{STBY} (in), 97 PG0/~{CS0} (io), 98 PG1/~{CS1} (io), 101 PG2/~{CS2}/~{RAS2} (io), 102 PG3/~{CS3}/~{RAS3} (io), 104 VREF (in), 105 P40/AN0/(~{IRQ0}) (io), 106 P41/AN1/(~{IRQ1}) (io), 107 P42/AN2/(~{IRQ2}) (io), 108 P43/AN3/(~{IRQ3}) (io), 109 P44/AN4/(~{IRQ4}) (io), 110 P45/AN5/(~{IRQ5}) (io), 111 P46/AN6/(~{IRQ6}) (io), 112 P47/AN7/(~{IRQ7}) (io), 113 P94/AN12/DA2 (io), 114 P95/AN13/DA3 (io), 116 PG4/~{CS4}/~{BREQO} (io), 117 PG5/~{BACK} (io), 118 PG6/~{BREQ} (io), 119 P50/TXD2/~{IRQ0} (io), 120 P51/RXD2/~{IRQ1} (io), 121 P52/SCK2/~{IRQ2} (io), 122 P53/~{ADTRG}/~{IRQ3} (io), 123 P35/SCK1/SCL0/(~{OE}) (io), 124 P34/SCK0/SCK4/SDA0 (io), 125 P33/RXD1/SCL1 (io), 126 P32/RXD0/IRRXD/SDA1 (io), 127 P31/TXD1 (io), 128 P30/TXD0/IRTXD (io)
part B pins: 3 VSS (power), 4 VSS (power), 6 VCC (power), 12 VSS (power), 21 VSS (power), 26 VSS (power), 35 VSS (power), 36 VSS (power), 39 VCC (power), 64 VSS (power), 66 VCC (power), 68 VSS (power), 84 PLLVCC (power), 86 PLLVSS (power), 88 VSS (power), 91 VCC (power), 92 VCC (power), 95 VSS (power), 99 VSS (power), 100 VSS (power), 103 AVCC (power), 115 AVSS (power)

## HD6432365XXXTE
designator U?
Mask ROM H8S/2300 Series, 2368 Group MCU, 256K ROM, 16K RAM, TFP-120 Pkg; Published: 28-Aug-2009; DatasheetVersion: Rev.6.00, Mar-2009; PackageVersion: Sep-2005; PackageReference: PTQP0120LA-A; Publisher: Altium Limited; PackageDescription: 120-Pin Plastic Thin QFP, 14 x 14 x 1.0 mm Body, 0.4 mm Pitch; Code_JEITA: P-TQFP120-14x14-0.40; ComponentLink1Description: Manufacturer Link; ComponentLink1URL: http://sg.renesas.com/fmwk.jsp?cnt=h8s_family_landing.jsp&fp=/products/mpumcu/h8s_family/; ComponentLink2Description: Datasheet; ComponentLink2URL: http://documentation.renesas.com/eng/products/mpumcu/rej09b0050_h8s2368.pdf; ComponentLink3Description: Packaging Specification; ComponentLink3URL: http://sg.renesas.com/media/products/common_info/package/pdf/ic/code/ptqp0120la_a.pdf
footprint PTQP0120LA-A_N (Thin QFP, 120-Leads, Body 14x14mm, Pitch 0.4mm, IPC Medium Density)
footprint PTQP0120LA-A_L (Thin QFP, 120-Leads, Body 14x14mm, Pitch 0.4mm, IPC High Density)
footprint PTQP0120LA-A_M (Thin QFP, 120-Leads, Body 14x14mm, Pitch 0.4mm, IPC Low Density)
part A pins: 1 MD2 (in), 3 PC0/A0 (io), 4 PC1/A1 (io), 5 PC2/A2 (io), 6 PC3/A3 (io), 7 PC4/A4 (io), 9 PC5/A5 (io), 10 PC6/A6 (io), 11 PC7/A7 (io), 12 PB0/A8 (io), 13 PB1/A9 (io), 14 PB2/A10 (io), 15 PB3/A11 (io), 16 PB4/A12 (io), 18 PB5/A13 (io), 19 PB6/A14 (io), 20 PB7/A15 (io), 21 PA0/A16 (io), 23 PA1/A17 (io), 24 PA2/A18 (io), 25 PA3/A19 (io), 26 PA4/A20/~{IRQ4} (io), 27 PA5/A21/~{IRQ5} (io), 28 PA6/A22/~{IRQ6} (io), 29 PA7/A23/~{CS7}/~{IRQ7} (io), 30 EMLE (in), 31 ~{WDTOVF} (out), 32 NMI (in), 34 P10/PO8/TIOCA0/~{DREQ0} (io), 35 P11/PO9/TIOCB0/~{DREQ1} (io), 36 P12/PO10/TIOCC0/TCLKA/~{TEND0} (io), 37 P13/PO11/TIOCD0/TCLKB/~{TEND1} (io), 38 P14/PO12/TIOCA1/~{DACK0} (io), 39 P15/PO13/TIOCB1/TCLKC/~{DACK1} (io), 40 P16/PO14/TIOCA2 (io), 41 P17/PO15/TIOCB2/TCLKD (io), 42 P20/PO0/TIOCA3/TMRI0 (io), 43 P21/PO1/TIOCB3/TMRI1 (io), 44 P22/PO2/TIOCC3/TMCI0 (io), 45 P23/PO3/TIOCD3/TMCI1/TXD4 (io), 46 P24/PO4/TIOCA4/TMO0/RXD4 (io), 47 P25/PO5/TIOCB4/TMO1 (io), 48 P26/PO6/TIOCA5 (io), 49 P27/PO7/TIOCB5 (io), 50 P85/SCK3 (io), 51 PE0/D0 (io), 52 PE1/D1 (io), 53 PE2/D2 (io), 54 PE3/D3 (io), 55 PE4/D4 (io), 56 PE5/D5 (io), 57 PE6/D6 (io), 59 PE7/D7 (io), 61 PD0/D8 (io), 62 PD1/D9 (io), 63 PD2/D10 (io), 64 PD3/D11 (io), 65 PD4/D12 (io), 66 PD5/D13 (io), 67 PD6/D14 (io), 68 PD7/D15 (io), 69 PF0/~{WAIT}/~{OE} (io), 70 PF1/~{CS5}/~{UCAS} (io), 71 PF2/~{CS6}/~{LCAS} (io), 72 PF3/~{LWR} (io), 73 PF4/~{HWR} (io), 74 PF5/RD (io), 75 PF6/~{AS} (io), 77 ~{RES} (in), 79 PF7/F (io), 81 XTAL (in), 82 EXTAL (in), 85 P83/RXD3 (io), 86 P81/TXD3 (io), 88 ~{STBY} (in), 89 PG0/~{CS0} (io), 90 PG1/~{CS1} (io), 91 PG2/~{CS2}/~{RAS2} (io), 92 PG3/~{CS3}/~{RAS3} (io), 94 VREF (in), 95 P40/AN0/(~{IRQ0}) (io), 96 P41/AN1/(~{IRQ1}) (io), 97 P42/AN2/(~{IRQ2}) (io), 98 P43/AN3/(~{IRQ3}) (io), 99 P44/AN4/(~{IRQ4}) (io), 100 P45/AN5/(~{IRQ5}) (io), 101 P46/AN6/(~{IRQ6}) (io), 102 P47/AN7/(~{IRQ7}) (io), 103 P94/AN12/DA2 (io), 104 P95/AN13/DA3 (io), 106 PG4/~{CS4}/~{BREQO} (io), 107 PG5/~{BACK} (io), 108 PG6/~{BREQ} (io), 109 P50/TXD2/~{IRQ0} (io), 110 P51/RXD2/~{IRQ1} (io), 111 P52/SCK2/~{IRQ2} (io), 112 P53/~{ADTRG}/~{IRQ3} (io), 113 P35/SCK1/SCL0/(~{OE}) (io), 114 P34/SCK0/SCK4/SDA0 (io), 115 P33/RXD1/SCL1 (io), 116 P32/RXD0/IRRXD/SDA1 (io), 117 P31/TXD1 (io), 118 P30/TXD0/IRTXD (io), 119 MD0 (in), 120 MD1 (in)
part B pins: 2 VCC (power), 8 VSS (power), 17 VSS (power), 22 VSS (power), 33 VCC (power), 58 VSS (power), 60 VCC (power), 76 PLLVCC (power), 78 PLLVSS (power), 80 VSS (power), 83 VCC (power), 84 VCC (power), 87 VSS (power), 93 AVCC (power), 105 AVSS (power)

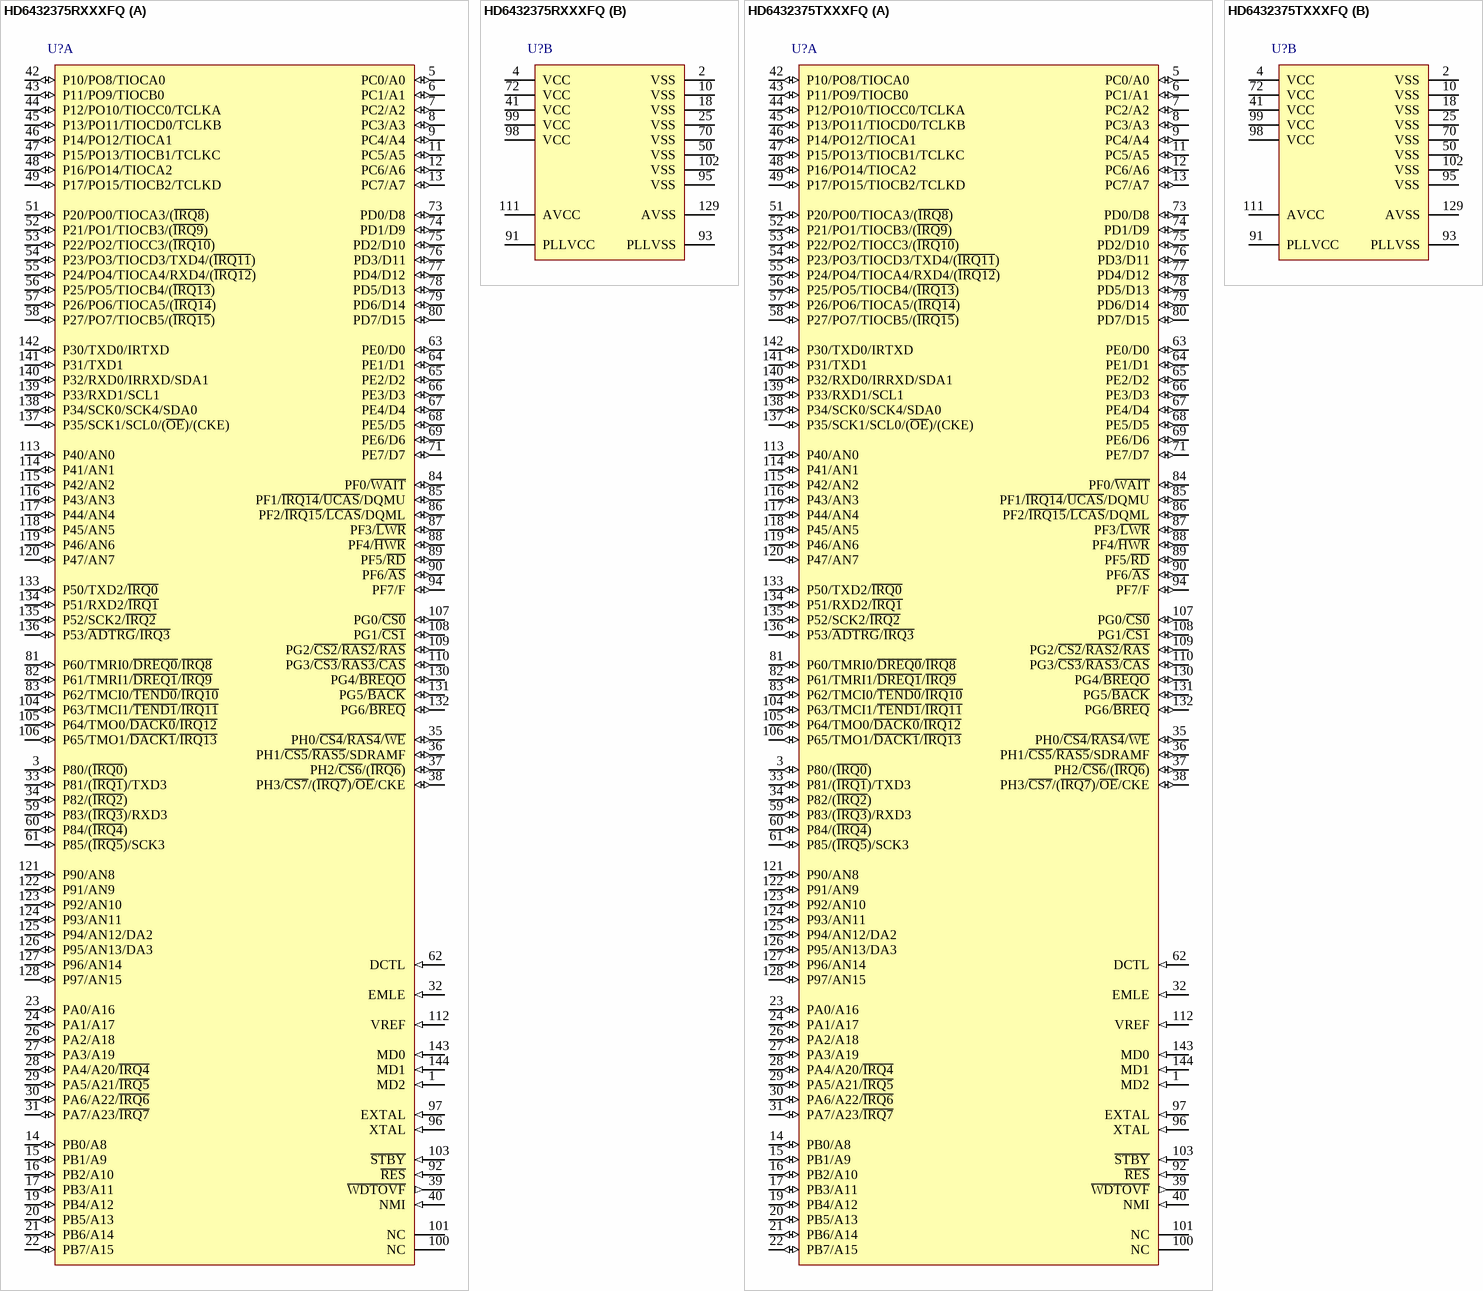
[diagram p178: symbols HD6432375RXXXFQ to HD6432375TXXXFQ]

## HD6432375RXXXFQ
designator U?
Mask ROM H8S/2300 Series, 2378R Group MCU, 256K ROM, 16K RAM, FP-144H Pkg; Published: 28-Aug-2009; DatasheetVersion: Rev.7.00, Mar-2009; PackageVersion: Sep-2005; PackageReference: PLQP0144KC-A; Publisher: Altium Limited; PackageDescription: 144-Pin Plastic Low Profile QFP, 20 x 20 x 1.45 mm Body, 0.5 mm Pitch; Code_JEITA: P-LQFP144-20x20-0.50; Code_IPC: SQFP50P2200X2200-144; ComponentLink1Description: Manufacturer Link; ComponentLink1URL: http://sg.renesas.com/fmwk.jsp?cnt=h8s_family_landing.jsp&fp=/products/mpumcu/h8s_family/; ComponentLink2Description: Datasheet; ComponentLink2URL: http://documentation.renesas.com/eng/products/mpumcu/rej09b0109_h8s2378.pdf; ComponentLink3Description: Packaging Specification; ComponentLink3URL: http://sg.renesas.com/media/products/common_info/package/pdf/ic/code/plqp0144kc_a.pdf
footprint PLQP0144KC-A_N (Shrink QFP, 144-Leads, Body 20x20mm, Pitch 0.5mm, IPC Medium Density)
footprint PLQP0144KC-A_L (Shrink QFP, 144-Leads, Body 20x20mm, Pitch 0.5mm, IPC High Density)
footprint PLQP0144KC-A_M (Shrink QFP, 144-Leads, Body 20x20mm, Pitch 0.5mm, IPC Low Density)
part A pins: 1 MD2 (in), 3 P80/(~{IRQ0}) (io), 5 PC0/A0 (io), 6 PC1/A1 (io), 7 PC2/A2 (io), 8 PC3/A3 (io), 9 PC4/A4 (io), 11 PC5/A5 (io), 12 PC6/A6 (io), 13 PC7/A7 (io), 14 PB0/A8 (io), 15 PB1/A9 (io), 16 PB2/A10 (io), 17 PB3/A11 (io), 19 PB4/A12 (io), 20 PB5/A13 (io), 21 PB6/A14 (io), 22 PB7/A15 (io), 23 PA0/A16 (io), 24 PA1/A17 (io), 26 PA2/A18 (io), 27 PA3/A19 (io), 28 PA4/A20/~{IRQ4} (io), 29 PA5/A21/~{IRQ5} (io), 30 PA6/A22/~{IRQ6} (io), 31 PA7/A23/~{IRQ7} (io), 32 EMLE (in), 33 P81/(~{IRQ1})/TXD3 (io), 34 P82/(~{IRQ2}) (io), 35 PH0/~{CS4}/~{RAS4}/~{WE} (io), 36 PH1/~{CS5}/~{RAS5}/SDRAMF (io), 37 PH2/~{CS6}/(~{IRQ6}) (io), 38 PH3/~{CS7}/(~{IRQ7})/~{OE}/CKE (io), 39 ~{WDTOVF} (out), 40 NMI (in), 42 P10/PO8/TIOCA0 (io), 43 P11/PO9/TIOCB0 (io), 44 P12/PO10/TIOCC0/TCLKA (io), 45 P13/PO11/TIOCD0/TCLKB (io), 46 P14/PO12/TIOCA1 (io), 47 P15/PO13/TIOCB1/TCLKC (io), 48 P16/PO14/TIOCA2 (io), 49 P17/PO15/TIOCB2/TCLKD (io), 51 P20/PO0/TIOCA3/(~{IRQ8}) (io), 52 P21/PO1/TIOCB3/(~{IRQ9}) (io), 53 P22/PO2/TIOCC3/(~{IRQ10}) (io), 54 P23/PO3/TIOCD3/TXD4/(~{IRQ11}) (io), 55 P24/PO4/TIOCA4/RXD4/(~{IRQ12}) (io), 56 P25/PO5/TIOCB4/(~{IRQ13}) (io), 57 P26/PO6/TIOCA5/(~{IRQ14}) (io), 58 P27/PO7/TIOCB5/(~{IRQ15}) (io), 59 P83/(~{IRQ3})/RXD3 (io), 60 P84/(~{IRQ4}) (io), 61 P85/(~{IRQ5})/SCK3 (io), 62 DCTL (in), 63 PE0/D0 (io), 64 PE1/D1 (io), 65 PE2/D2 (io), 66 PE3/D3 (io), 67 PE4/D4 (io), 68 PE5/D5 (io), 69 PE6/D6 (io), 71 PE7/D7 (io), 73 PD0/D8 (io), 74 PD1/D9 (io), 75 PD2/D10 (io), 76 PD3/D11 (io), 77 PD4/D12 (io), 78 PD5/D13 (io), 79 PD6/D14 (io), 80 PD7/D15 (io), 81 P60/TMRI0/~{DREQ0}/~{IRQ8} (io), 82 P61/TMRI1/~{DREQ1}/~{IRQ9} (io), 83 P62/TMCI0/~{TEND0}/~{IRQ10} (io), 84 PF0/~{WAIT} (io), 85 PF1/~{IRQ14}/~{UCAS}/DQMU (io), 86 PF2/~{IRQ15}/~{LCAS}/DQML (io), 87 PF3/~{LWR} (io), 88 PF4/~{HWR} (io), 89 PF5/~{RD} (io), 90 PF6/~{AS} (io), 92 ~{RES} (in), 94 PF7/F (io), 96 XTAL (in), 97 EXTAL (in), 100 NC, 101 NC, 103 ~{STBY} (in), 104 P63/TMCI1/~{TEND1}/~{IRQ11} (io), 105 P64/TMO0/~{DACK0}/~{IRQ12} (io), 106 P65/TMO1/~{DACK1}/~{IRQ13} (io), 107 PG0/~{CS0} (io), 108 PG1/~{CS1} (io), 109 PG2/~{CS2}/~{RAS2}/~{RAS} (io), 110 PG3/~{CS3}/~{RAS3}/~{CAS} (io), 112 VREF (in), 113 P40/AN0 (io), 114 P41/AN1 (io), 115 P42/AN2 (io), 116 P43/AN3 (io), 117 P44/AN4 (io), 118 P45/AN5 (io), 119 P46/AN6 (io), 120 P47/AN7 (io), 121 P90/AN8 (io), 122 P91/AN9 (io), 123 P92/AN10 (io), 124 P93/AN11 (io), 125 P94/AN12/DA2 (io), 126 P95/AN13/DA3 (io), 127 P96/AN14 (io), 128 P97/AN15 (io), 130 PG4/~{BREQO} (io), 131 PG5/~{BACK} (io), 132 PG6/~{BREQ} (io), 133 P50/TXD2/~{IRQ0} (io), 134 P51/RXD2/~{IRQ1} (io), 135 P52/SCK2/~{IRQ2} (io), 136 P53/~{ADTRG}/~{IRQ3} (io), 137 P35/SCK1/SCL0/(~{OE})/(CKE) (io), 138 P34/SCK0/SCK4/SDA0 (io), 139 P33/RXD1/SCL1 (io), 140 P32/RXD0/IRRXD/SDA1 (io), 141 P31/TXD1 (io), 142 P30/TXD0/IRTXD (io), 143 MD0 (in), 144 MD1 (in)
part B pins: 2 VSS (power), 4 VCC (power), 10 VSS (power), 18 VSS (power), 25 VSS (power), 41 VCC (power), 50 VSS (power), 70 VSS (power), 72 VCC (power), 91 PLLVCC (power), 93 PLLVSS (power), 95 VSS (power), 98 VCC (power), 99 VCC (power), 102 VSS (power), 111 AVCC (power), 129 AVSS (power)

## HD6432375TXXXFQ
designator U?
Mask ROM H8S/2300 Series, 2378R Group MCU, 256K ROM, 16K RAM, FP-144H Pkg; Published: 28-Aug-2009; DatasheetVersion: Rev.7.00, Mar-2009; PackageVersion: Sep-2005; PackageReference: PLQP0144KC-A; Publisher: Altium Limited; PackageDescription: 144-Pin Plastic Low Profile QFP, 20 x 20 x 1.45 mm Body, 0.5 mm Pitch; Code_JEITA: P-LQFP144-20x20-0.50; Code_IPC: SQFP50P2200X2200-144; ComponentLink1Description: Manufacturer Link; ComponentLink1URL: http://sg.renesas.com/fmwk.jsp?cnt=h8s_family_landing.jsp&fp=/products/mpumcu/h8s_family/; ComponentLink2Description: Datasheet; ComponentLink2URL: http://documentation.renesas.com/eng/products/mpumcu/rej09b0109_h8s2378.pdf; ComponentLink3Description: Packaging Specification; ComponentLink3URL: http://sg.renesas.com/media/products/common_info/package/pdf/ic/code/plqp0144kc_a.pdf
footprint PLQP0144KC-A_N (Shrink QFP, 144-Leads, Body 20x20mm, Pitch 0.5mm, IPC Medium Density)
footprint PLQP0144KC-A_L (Shrink QFP, 144-Leads, Body 20x20mm, Pitch 0.5mm, IPC High Density)
footprint PLQP0144KC-A_M (Shrink QFP, 144-Leads, Body 20x20mm, Pitch 0.5mm, IPC Low Density)
part A pins: 1 MD2 (in), 3 P80/(~{IRQ0}) (io), 5 PC0/A0 (io), 6 PC1/A1 (io), 7 PC2/A2 (io), 8 PC3/A3 (io), 9 PC4/A4 (io), 11 PC5/A5 (io), 12 PC6/A6 (io), 13 PC7/A7 (io), 14 PB0/A8 (io), 15 PB1/A9 (io), 16 PB2/A10 (io), 17 PB3/A11 (io), 19 PB4/A12 (io), 20 PB5/A13 (io), 21 PB6/A14 (io), 22 PB7/A15 (io), 23 PA0/A16 (io), 24 PA1/A17 (io), 26 PA2/A18 (io), 27 PA3/A19 (io), 28 PA4/A20/~{IRQ4} (io), 29 PA5/A21/~{IRQ5} (io), 30 PA6/A22/~{IRQ6} (io), 31 PA7/A23/~{IRQ7} (io), 32 EMLE (in), 33 P81/(~{IRQ1})/TXD3 (io), 34 P82/(~{IRQ2}) (io), 35 PH0/~{CS4}/~{RAS4}/~{WE} (io), 36 PH1/~{CS5}/~{RAS5}/SDRAMF (io), 37 PH2/~{CS6}/(~{IRQ6}) (io), 38 PH3/~{CS7}/(~{IRQ7})/~{OE}/CKE (io), 39 ~{WDTOVF} (out), 40 NMI (in), 42 P10/PO8/TIOCA0 (io), 43 P11/PO9/TIOCB0 (io), 44 P12/PO10/TIOCC0/TCLKA (io), 45 P13/PO11/TIOCD0/TCLKB (io), 46 P14/PO12/TIOCA1 (io), 47 P15/PO13/TIOCB1/TCLKC (io), 48 P16/PO14/TIOCA2 (io), 49 P17/PO15/TIOCB2/TCLKD (io), 51 P20/PO0/TIOCA3/(~{IRQ8}) (io), 52 P21/PO1/TIOCB3/(~{IRQ9}) (io), 53 P22/PO2/TIOCC3/(~{IRQ10}) (io), 54 P23/PO3/TIOCD3/TXD4/(~{IRQ11}) (io), 55 P24/PO4/TIOCA4/RXD4/(~{IRQ12}) (io), 56 P25/PO5/TIOCB4/(~{IRQ13}) (io), 57 P26/PO6/TIOCA5/(~{IRQ14}) (io), 58 P27/PO7/TIOCB5/(~{IRQ15}) (io), 59 P83/(~{IRQ3})/RXD3 (io), 60 P84/(~{IRQ4}) (io), 61 P85/(~{IRQ5})/SCK3 (io), 62 DCTL (in), 63 PE0/D0 (io), 64 PE1/D1 (io), 65 PE2/D2 (io), 66 PE3/D3 (io), 67 PE4/D4 (io), 68 PE5/D5 (io), 69 PE6/D6 (io), 71 PE7/D7 (io), 73 PD0/D8 (io), 74 PD1/D9 (io), 75 PD2/D10 (io), 76 PD3/D11 (io), 77 PD4/D12 (io), 78 PD5/D13 (io), 79 PD6/D14 (io), 80 PD7/D15 (io), 81 P60/TMRI0/~{DREQ0}/~{IRQ8} (io), 82 P61/TMRI1/~{DREQ1}/~{IRQ9} (io), 83 P62/TMCI0/~{TEND0}/~{IRQ10} (io), 84 PF0/~{WAIT} (io), 85 PF1/~{IRQ14}/~{UCAS}/DQMU (io), 86 PF2/~{IRQ15}/~{LCAS}/DQML (io), 87 PF3/~{LWR} (io), 88 PF4/~{HWR} (io), 89 PF5/~{RD} (io), 90 PF6/~{AS} (io), 92 ~{RES} (in), 94 PF7/F (io), 96 XTAL (in), 97 EXTAL (in), 100 NC, 101 NC, 103 ~{STBY} (in), 104 P63/TMCI1/~{TEND1}/~{IRQ11} (io), 105 P64/TMO0/~{DACK0}/~{IRQ12} (io), 106 P65/TMO1/~{DACK1}/~{IRQ13} (io), 107 PG0/~{CS0} (io), 108 PG1/~{CS1} (io), 109 PG2/~{CS2}/~{RAS2}/~{RAS} (io), 110 PG3/~{CS3}/~{RAS3}/~{CAS} (io), 112 VREF (in), 113 P40/AN0 (io), 114 P41/AN1 (io), 115 P42/AN2 (io), 116 P43/AN3 (io), 117 P44/AN4 (io), 118 P45/AN5 (io), 119 P46/AN6 (io), 120 P47/AN7 (io), 121 P90/AN8 (io), 122 P91/AN9 (io), 123 P92/AN10 (io), 124 P93/AN11 (io), 125 P94/AN12/DA2 (io), 126 P95/AN13/DA3 (io), 127 P96/AN14 (io), 128 P97/AN15 (io), 130 PG4/~{BREQO} (io), 131 PG5/~{BACK} (io), 132 PG6/~{BREQ} (io), 133 P50/TXD2/~{IRQ0} (io), 134 P51/RXD2/~{IRQ1} (io), 135 P52/SCK2/~{IRQ2} (io), 136 P53/~{ADTRG}/~{IRQ3} (io), 137 P35/SCK1/SCL0/(~{OE})/(CKE) (io), 138 P34/SCK0/SCK4/SDA0 (io), 139 P33/RXD1/SCL1 (io), 140 P32/RXD0/IRRXD/SDA1 (io), 141 P31/TXD1 (io), 142 P30/TXD0/IRTXD (io), 143 MD0 (in), 144 MD1 (in)
part B pins: 2 VSS (power), 4 VCC (power), 10 VSS (power), 18 VSS (power), 25 VSS (power), 41 VCC (power), 50 VSS (power), 70 VSS (power), 72 VCC (power), 91 PLLVCC (power), 93 PLLVSS (power), 95 VSS (power), 98 VCC (power), 99 VCC (power), 102 VSS (power), 111 AVCC (power), 129 AVSS (power)

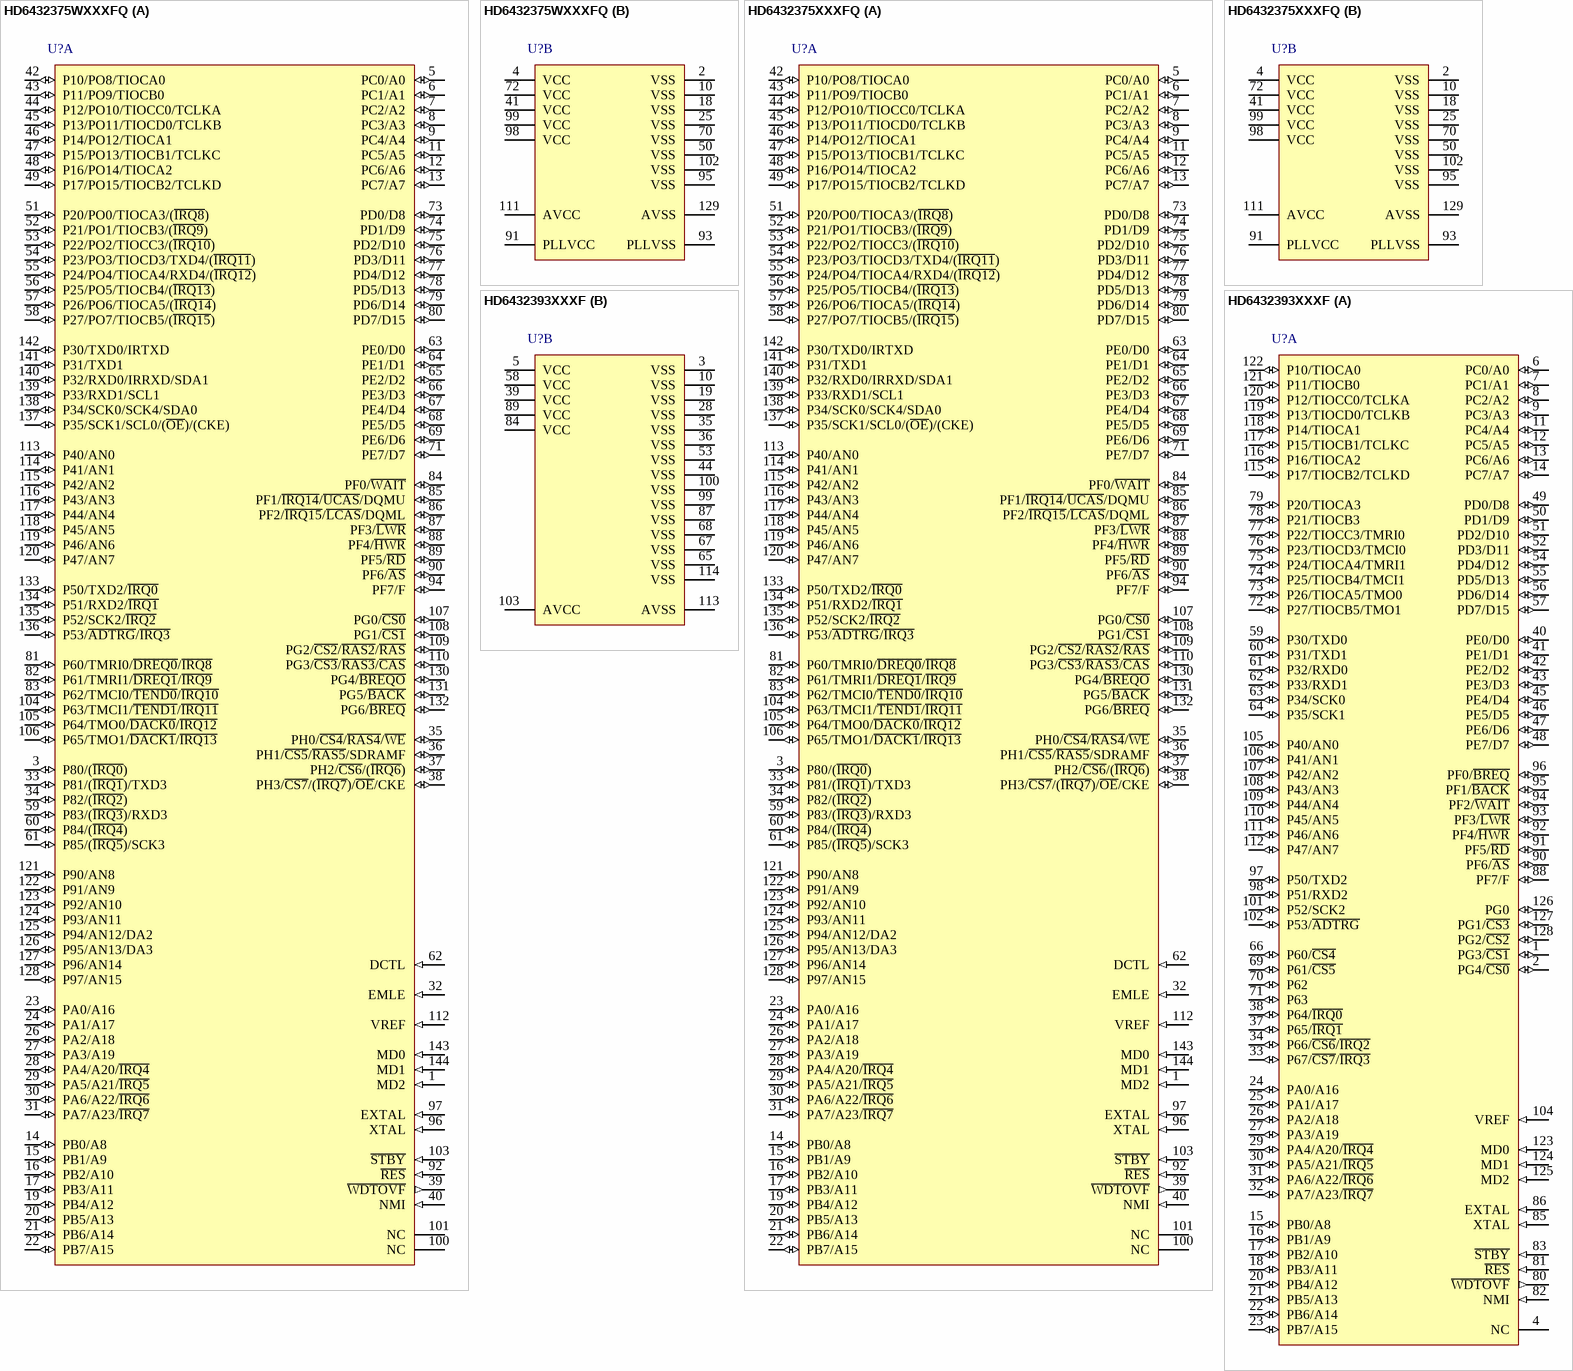
[diagram p179: symbols HD6432375WXXXFQ to HD6432393XXXF]

## HD6432375WXXXFQ
designator U?
Mask ROM H8S/2300 Series, 2378 Group MCU, 256K ROM, 16K RAM, FP-144H Pkg; Published: 28-Aug-2009; DatasheetVersion: Rev.7.00, Mar-2009; PackageVersion: Sep-2005; PackageReference: PLQP0144KC-A; Publisher: Altium Limited; PackageDescription: 144-Pin Plastic Low Profile QFP, 20 x 20 x 1.45 mm Body, 0.5 mm Pitch; Code_JEITA: P-LQFP144-20x20-0.50; Code_IPC: SQFP50P2200X2200-144; ComponentLink1Description: Manufacturer Link; ComponentLink1URL: http://sg.renesas.com/fmwk.jsp?cnt=h8s_family_landing.jsp&fp=/products/mpumcu/h8s_family/; ComponentLink2Description: Datasheet; ComponentLink2URL: http://documentation.renesas.com/eng/products/mpumcu/rej09b0109_h8s2378.pdf; ComponentLink3Description: Packaging Specification; ComponentLink3URL: http://sg.renesas.com/media/products/common_info/package/pdf/ic/code/plqp0144kc_a.pdf
footprint PLQP0144KC-A_N (Shrink QFP, 144-Leads, Body 20x20mm, Pitch 0.5mm, IPC Medium Density)
footprint PLQP0144KC-A_L (Shrink QFP, 144-Leads, Body 20x20mm, Pitch 0.5mm, IPC High Density)
footprint PLQP0144KC-A_M (Shrink QFP, 144-Leads, Body 20x20mm, Pitch 0.5mm, IPC Low Density)
part A pins: 1 MD2 (in), 3 P80/(~{IRQ0}) (io), 5 PC0/A0 (io), 6 PC1/A1 (io), 7 PC2/A2 (io), 8 PC3/A3 (io), 9 PC4/A4 (io), 11 PC5/A5 (io), 12 PC6/A6 (io), 13 PC7/A7 (io), 14 PB0/A8 (io), 15 PB1/A9 (io), 16 PB2/A10 (io), 17 PB3/A11 (io), 19 PB4/A12 (io), 20 PB5/A13 (io), 21 PB6/A14 (io), 22 PB7/A15 (io), 23 PA0/A16 (io), 24 PA1/A17 (io), 26 PA2/A18 (io), 27 PA3/A19 (io), 28 PA4/A20/~{IRQ4} (io), 29 PA5/A21/~{IRQ5} (io), 30 PA6/A22/~{IRQ6} (io), 31 PA7/A23/~{IRQ7} (io), 32 EMLE (in), 33 P81/(~{IRQ1})/TXD3 (io), 34 P82/(~{IRQ2}) (io), 35 PH0/~{CS4}/~{RAS4}/~{WE} (io), 36 PH1/~{CS5}/~{RAS5}/SDRAMF (io), 37 PH2/~{CS6}/(~{IRQ6}) (io), 38 PH3/~{CS7}/(~{IRQ7})/~{OE}/CKE (io), 39 ~{WDTOVF} (out), 40 NMI (in), 42 P10/PO8/TIOCA0 (io), 43 P11/PO9/TIOCB0 (io), 44 P12/PO10/TIOCC0/TCLKA (io), 45 P13/PO11/TIOCD0/TCLKB (io), 46 P14/PO12/TIOCA1 (io), 47 P15/PO13/TIOCB1/TCLKC (io), 48 P16/PO14/TIOCA2 (io), 49 P17/PO15/TIOCB2/TCLKD (io), 51 P20/PO0/TIOCA3/(~{IRQ8}) (io), 52 P21/PO1/TIOCB3/(~{IRQ9}) (io), 53 P22/PO2/TIOCC3/(~{IRQ10}) (io), 54 P23/PO3/TIOCD3/TXD4/(~{IRQ11}) (io), 55 P24/PO4/TIOCA4/RXD4/(~{IRQ12}) (io), 56 P25/PO5/TIOCB4/(~{IRQ13}) (io), 57 P26/PO6/TIOCA5/(~{IRQ14}) (io), 58 P27/PO7/TIOCB5/(~{IRQ15}) (io), 59 P83/(~{IRQ3})/RXD3 (io), 60 P84/(~{IRQ4}) (io), 61 P85/(~{IRQ5})/SCK3 (io), 62 DCTL (in), 63 PE0/D0 (io), 64 PE1/D1 (io), 65 PE2/D2 (io), 66 PE3/D3 (io), 67 PE4/D4 (io), 68 PE5/D5 (io), 69 PE6/D6 (io), 71 PE7/D7 (io), 73 PD0/D8 (io), 74 PD1/D9 (io), 75 PD2/D10 (io), 76 PD3/D11 (io), 77 PD4/D12 (io), 78 PD5/D13 (io), 79 PD6/D14 (io), 80 PD7/D15 (io), 81 P60/TMRI0/~{DREQ0}/~{IRQ8} (io), 82 P61/TMRI1/~{DREQ1}/~{IRQ9} (io), 83 P62/TMCI0/~{TEND0}/~{IRQ10} (io), 84 PF0/~{WAIT} (io), 85 PF1/~{IRQ14}/~{UCAS}/DQMU (io), 86 PF2/~{IRQ15}/~{LCAS}/DQML (io), 87 PF3/~{LWR} (io), 88 PF4/~{HWR} (io), 89 PF5/~{RD} (io), 90 PF6/~{AS} (io), 92 ~{RES} (in), 94 PF7/F (io), 96 XTAL (in), 97 EXTAL (in), 100 NC, 101 NC, 103 ~{STBY} (in), 104 P63/TMCI1/~{TEND1}/~{IRQ11} (io), 105 P64/TMO0/~{DACK0}/~{IRQ12} (io), 106 P65/TMO1/~{DACK1}/~{IRQ13} (io), 107 PG0/~{CS0} (io), 108 PG1/~{CS1} (io), 109 PG2/~{CS2}/~{RAS2}/~{RAS} (io), 110 PG3/~{CS3}/~{RAS3}/~{CAS} (io), 112 VREF (in), 113 P40/AN0 (io), 114 P41/AN1 (io), 115 P42/AN2 (io), 116 P43/AN3 (io), 117 P44/AN4 (io), 118 P45/AN5 (io), 119 P46/AN6 (io), 120 P47/AN7 (io), 121 P90/AN8 (io), 122 P91/AN9 (io), 123 P92/AN10 (io), 124 P93/AN11 (io), 125 P94/AN12/DA2 (io), 126 P95/AN13/DA3 (io), 127 P96/AN14 (io), 128 P97/AN15 (io), 130 PG4/~{BREQO} (io), 131 PG5/~{BACK} (io), 132 PG6/~{BREQ} (io), 133 P50/TXD2/~{IRQ0} (io), 134 P51/RXD2/~{IRQ1} (io), 135 P52/SCK2/~{IRQ2} (io), 136 P53/~{ADTRG}/~{IRQ3} (io), 137 P35/SCK1/SCL0/(~{OE})/(CKE) (io), 138 P34/SCK0/SCK4/SDA0 (io), 139 P33/RXD1/SCL1 (io), 140 P32/RXD0/IRRXD/SDA1 (io), 141 P31/TXD1 (io), 142 P30/TXD0/IRTXD (io), 143 MD0 (in), 144 MD1 (in)
part B pins: 2 VSS (power), 4 VCC (power), 10 VSS (power), 18 VSS (power), 25 VSS (power), 41 VCC (power), 50 VSS (power), 70 VSS (power), 72 VCC (power), 91 PLLVCC (power), 93 PLLVSS (power), 95 VSS (power), 98 VCC (power), 99 VCC (power), 102 VSS (power), 111 AVCC (power), 129 AVSS (power)

## HD6432375XXXFQ
designator U?
Mask ROM H8S/2300 Series, 2378 Group MCU, 256K ROM, 16K RAM, FP-144H Pkg; Published: 28-Aug-2009; DatasheetVersion: Rev.7.00, Mar-2009; PackageVersion: Sep-2005; PackageReference: PLQP0144KC-A; Publisher: Altium Limited; PackageDescription: 144-Pin Plastic Low Profile QFP, 20 x 20 x 1.45 mm Body, 0.5 mm Pitch; Code_JEITA: P-LQFP144-20x20-0.50; Code_IPC: SQFP50P2200X2200-144; ComponentLink1Description: Manufacturer Link; ComponentLink1URL: http://sg.renesas.com/fmwk.jsp?cnt=h8s_family_landing.jsp&fp=/products/mpumcu/h8s_family/; ComponentLink2Description: Datasheet; ComponentLink2URL: http://documentation.renesas.com/eng/products/mpumcu/rej09b0109_h8s2378.pdf; ComponentLink3Description: Packaging Specification; ComponentLink3URL: http://sg.renesas.com/media/products/common_info/package/pdf/ic/code/plqp0144kc_a.pdf
footprint PLQP0144KC-A_N (Shrink QFP, 144-Leads, Body 20x20mm, Pitch 0.5mm, IPC Medium Density)
footprint PLQP0144KC-A_L (Shrink QFP, 144-Leads, Body 20x20mm, Pitch 0.5mm, IPC High Density)
footprint PLQP0144KC-A_M (Shrink QFP, 144-Leads, Body 20x20mm, Pitch 0.5mm, IPC Low Density)
part A pins: 1 MD2 (in), 3 P80/(~{IRQ0}) (io), 5 PC0/A0 (io), 6 PC1/A1 (io), 7 PC2/A2 (io), 8 PC3/A3 (io), 9 PC4/A4 (io), 11 PC5/A5 (io), 12 PC6/A6 (io), 13 PC7/A7 (io), 14 PB0/A8 (io), 15 PB1/A9 (io), 16 PB2/A10 (io), 17 PB3/A11 (io), 19 PB4/A12 (io), 20 PB5/A13 (io), 21 PB6/A14 (io), 22 PB7/A15 (io), 23 PA0/A16 (io), 24 PA1/A17 (io), 26 PA2/A18 (io), 27 PA3/A19 (io), 28 PA4/A20/~{IRQ4} (io), 29 PA5/A21/~{IRQ5} (io), 30 PA6/A22/~{IRQ6} (io), 31 PA7/A23/~{IRQ7} (io), 32 EMLE (in), 33 P81/(~{IRQ1})/TXD3 (io), 34 P82/(~{IRQ2}) (io), 35 PH0/~{CS4}/~{RAS4}/~{WE} (io), 36 PH1/~{CS5}/~{RAS5}/SDRAMF (io), 37 PH2/~{CS6}/(~{IRQ6}) (io), 38 PH3/~{CS7}/(~{IRQ7})/~{OE}/CKE (io), 39 ~{WDTOVF} (out), 40 NMI (in), 42 P10/PO8/TIOCA0 (io), 43 P11/PO9/TIOCB0 (io), 44 P12/PO10/TIOCC0/TCLKA (io), 45 P13/PO11/TIOCD0/TCLKB (io), 46 P14/PO12/TIOCA1 (io), 47 P15/PO13/TIOCB1/TCLKC (io), 48 P16/PO14/TIOCA2 (io), 49 P17/PO15/TIOCB2/TCLKD (io), 51 P20/PO0/TIOCA3/(~{IRQ8}) (io), 52 P21/PO1/TIOCB3/(~{IRQ9}) (io), 53 P22/PO2/TIOCC3/(~{IRQ10}) (io), 54 P23/PO3/TIOCD3/TXD4/(~{IRQ11}) (io), 55 P24/PO4/TIOCA4/RXD4/(~{IRQ12}) (io), 56 P25/PO5/TIOCB4/(~{IRQ13}) (io), 57 P26/PO6/TIOCA5/(~{IRQ14}) (io), 58 P27/PO7/TIOCB5/(~{IRQ15}) (io), 59 P83/(~{IRQ3})/RXD3 (io), 60 P84/(~{IRQ4}) (io), 61 P85/(~{IRQ5})/SCK3 (io), 62 DCTL (in), 63 PE0/D0 (io), 64 PE1/D1 (io), 65 PE2/D2 (io), 66 PE3/D3 (io), 67 PE4/D4 (io), 68 PE5/D5 (io), 69 PE6/D6 (io), 71 PE7/D7 (io), 73 PD0/D8 (io), 74 PD1/D9 (io), 75 PD2/D10 (io), 76 PD3/D11 (io), 77 PD4/D12 (io), 78 PD5/D13 (io), 79 PD6/D14 (io), 80 PD7/D15 (io), 81 P60/TMRI0/~{DREQ0}/~{IRQ8} (io), 82 P61/TMRI1/~{DREQ1}/~{IRQ9} (io), 83 P62/TMCI0/~{TEND0}/~{IRQ10} (io), 84 PF0/~{WAIT} (io), 85 PF1/~{IRQ14}/~{UCAS}/DQMU (io), 86 PF2/~{IRQ15}/~{LCAS}/DQML (io), 87 PF3/~{LWR} (io), 88 PF4/~{HWR} (io), 89 PF5/~{RD} (io), 90 PF6/~{AS} (io), 92 ~{RES} (in), 94 PF7/F (io), 96 XTAL (in), 97 EXTAL (in), 100 NC, 101 NC, 103 ~{STBY} (in), 104 P63/TMCI1/~{TEND1}/~{IRQ11} (io), 105 P64/TMO0/~{DACK0}/~{IRQ12} (io), 106 P65/TMO1/~{DACK1}/~{IRQ13} (io), 107 PG0/~{CS0} (io), 108 PG1/~{CS1} (io), 109 PG2/~{CS2}/~{RAS2}/~{RAS} (io), 110 PG3/~{CS3}/~{RAS3}/~{CAS} (io), 112 VREF (in), 113 P40/AN0 (io), 114 P41/AN1 (io), 115 P42/AN2 (io), 116 P43/AN3 (io), 117 P44/AN4 (io), 118 P45/AN5 (io), 119 P46/AN6 (io), 120 P47/AN7 (io), 121 P90/AN8 (io), 122 P91/AN9 (io), 123 P92/AN10 (io), 124 P93/AN11 (io), 125 P94/AN12/DA2 (io), 126 P95/AN13/DA3 (io), 127 P96/AN14 (io), 128 P97/AN15 (io), 130 PG4/~{BREQO} (io), 131 PG5/~{BACK} (io), 132 PG6/~{BREQ} (io), 133 P50/TXD2/~{IRQ0} (io), 134 P51/RXD2/~{IRQ1} (io), 135 P52/SCK2/~{IRQ2} (io), 136 P53/~{ADTRG}/~{IRQ3} (io), 137 P35/SCK1/SCL0/(~{OE})/(CKE) (io), 138 P34/SCK0/SCK4/SDA0 (io), 139 P33/RXD1/SCL1 (io), 140 P32/RXD0/IRRXD/SDA1 (io), 141 P31/TXD1 (io), 142 P30/TXD0/IRTXD (io), 143 MD0 (in), 144 MD1 (in)
part B pins: 2 VSS (power), 4 VCC (power), 10 VSS (power), 18 VSS (power), 25 VSS (power), 41 VCC (power), 50 VSS (power), 70 VSS (power), 72 VCC (power), 91 PLLVCC (power), 93 PLLVSS (power), 95 VSS (power), 98 VCC (power), 99 VCC (power), 102 VSS (power), 111 AVCC (power), 129 AVSS (power)